# Altium integrated library Lattice Semiconductor ECP3.IntLib: 126 symbols (part 10 of 29)
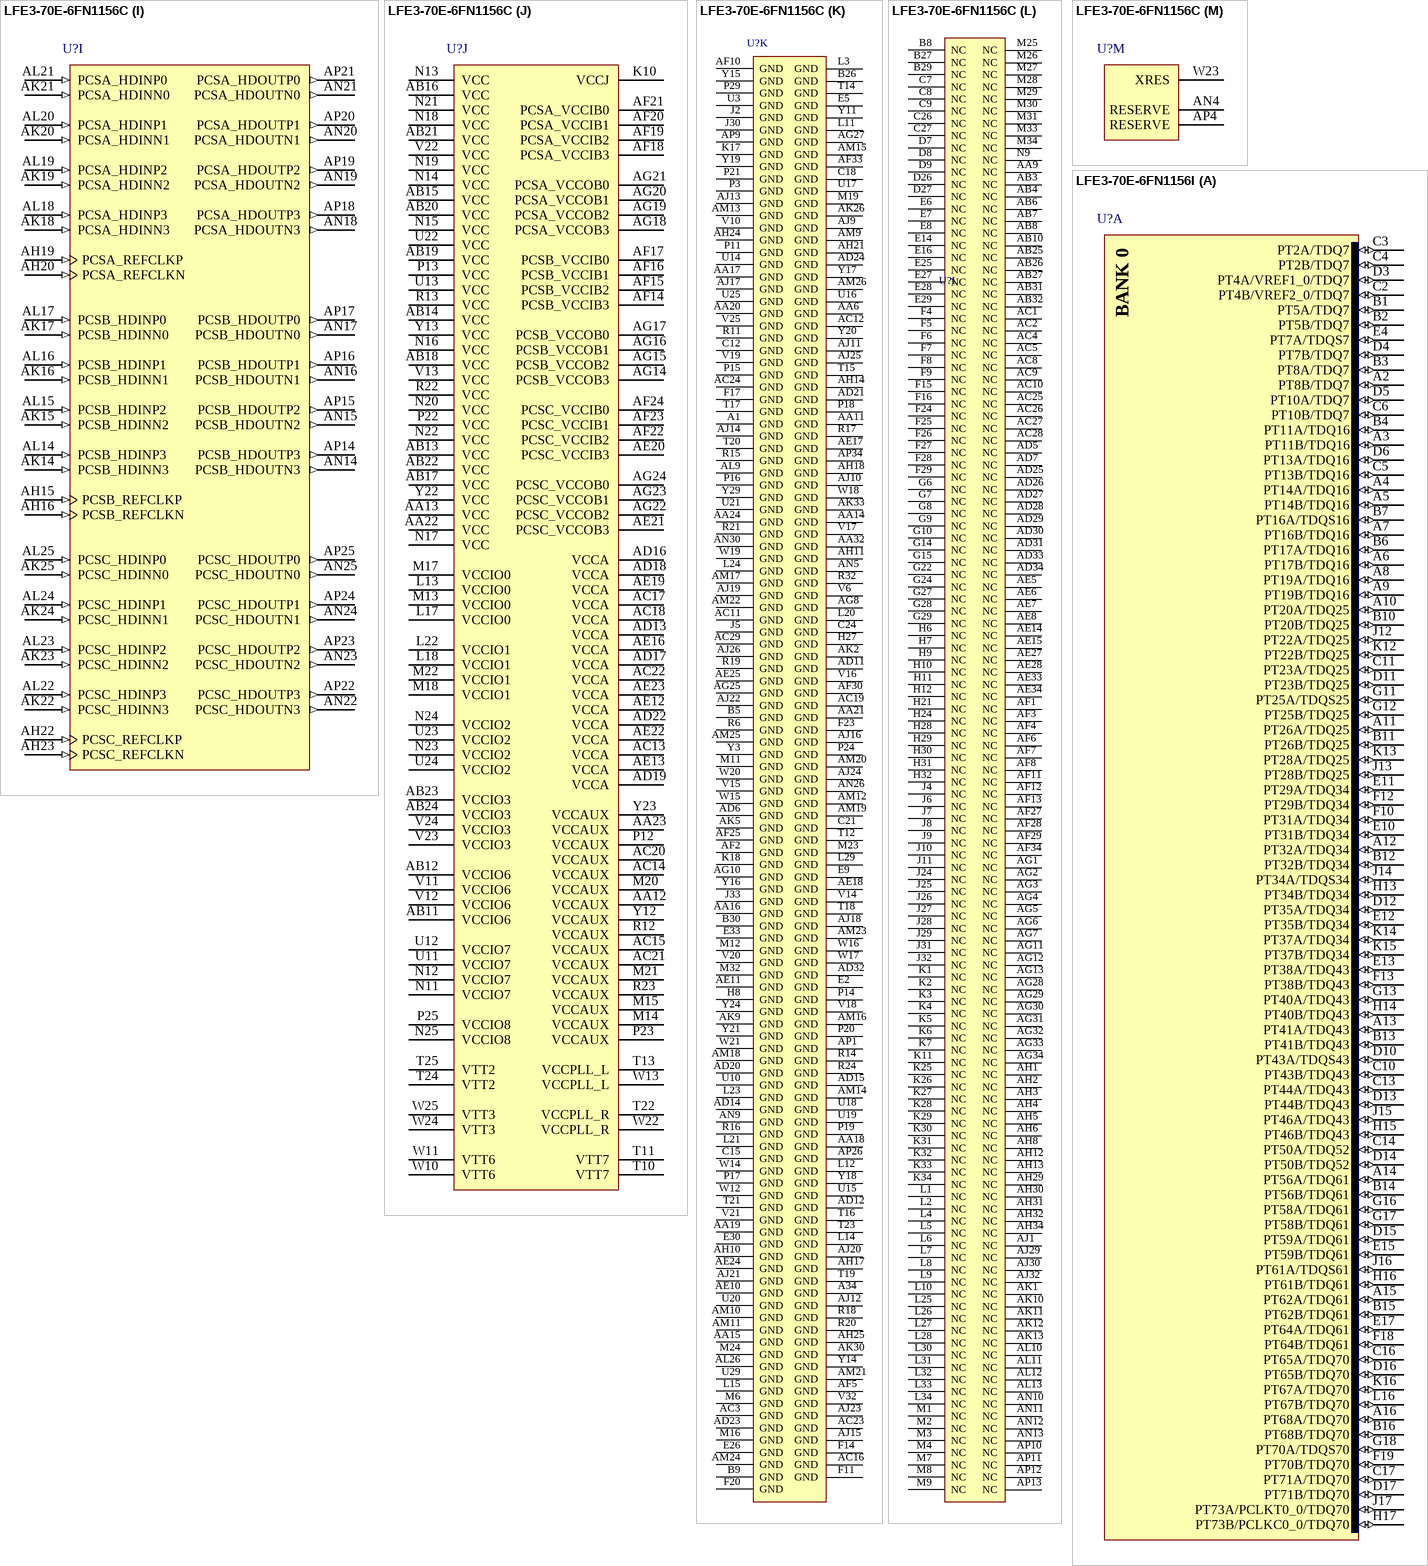
[diagram p264: symbols LFE3-70E-6FN1156C to LFE3-70E-6FN1156I]

## LFE3-70E-6FN1156C
designator U?
ECP3 1.2V FPGA, 490 I/Os, 67K LUTs, 1156-Pin BGA, Speed Grade 6, Commercial Grade, Pb-Free; DatasheetVersion: Ver 01.6, Mar-2010; PackageVersion: ver02.8, Jul-2011; PackageReference: fpBGA1156; PackageDescription: 1156-Ball Fine Pitch Ball Grid Array (fpBGA1156); Code_IPC: BGA100P34X34-1156; ComponentLink1Description: Manufacturer URL; ComponentLink1URL: http://www.latticesemi.com/
footprint fpBGA1156 (BGA, 1156-Leads, Body 35x35mm, Pitch 1mm)
part A pins: A2 PT8B/TDQ7 (io), A3 PT11B/TDQ16 (io), A4 PT14A/TDQ16 (io), A5 PT14B/TDQ16 (io), A6 PT17B/TDQ16 (io), A7 PT16B/TDQ16 (io), A8 PT19A/TDQ16 (io), A9 PT19B/TDQ16 (io), A10 PT20A/TDQ25 (io), A11 PT26A/TDQ25 (io), A12 PT32A/TDQ34 (io), A13 PT41A/TDQ43 (io), A14 PT56A/TDQ61 (io), A15 PT62A/TDQ61 (io), A16 PT68A/TDQ70 (io), B1 PT5A/TDQ7 (io), B2 PT5B/TDQ7 (io), B3 PT8A/TDQ7 (io), B4 PT11A/TDQ16 (io), B6 PT17A/TDQ16 (io), B7 PT16A/TDQS16 (io), B10 PT20B/TDQ25 (io), B11 PT26B/TDQ25 (io), B12 PT32B/TDQ34 (io), B13 PT41B/TDQ43 (io), B14 PT56B/TDQ61 (io), B15 PT62B/TDQ61 (io), B16 PT68B/TDQ70 (io), C2 PT4B/VREF2_0/TDQ7 (io), C3 PT2A/TDQ7 (io), C4 PT2B/TDQ7 (io), C5 PT13B/TDQ16 (io), C6 PT10B/TDQ7 (io), C10 PT43B/TDQ43 (io), C11 PT23A/TDQ25 (io), C13 PT44A/TDQ43 (io), C14 PT50A/TDQ52 (io), C16 PT65A/TDQ70 (io), C17 PT71A/TDQ70 (io), D3 PT4A/VREF1_0/TDQ7 (io), D4 PT7B/TDQ7 (io), D5 PT10A/TDQ7 (io), D6 PT13A/TDQ16 (io), D10 PT43A/TDQS43 (io), D11 PT23B/TDQ25 (io), D12 PT35A/TDQ34 (io), D13 PT44B/TDQ43 (io), D14 PT50B/TDQ52 (io), D15 PT59A/TDQ61 (io), D16 PT65B/TDQ70 (io), D17 PT71B/TDQ70 (io), E4 PT7A/TDQS7 (io), E10 PT31B/TDQ34 (io), E11 PT29A/TDQ34 (io), E12 PT35B/TDQ34 (io), E13 PT38A/TDQ43 (io), E15 PT59B/TDQ61 (io), E17 PT64A/TDQ61 (io), F10 PT31A/TDQ34 (io), F12 PT29B/TDQ34 (io), F13 PT38B/TDQ43 (io), F18 PT64B/TDQ61 (io), F19 PT70B/TDQ70 (io), G11 PT25A/TDQS25 (io), G12 PT25B/TDQ25 (io), G13 PT40A/TDQ43 (io), G16 PT58A/TDQ61 (io), G17 PT58B/TDQ61 (io), G18 PT70A/TDQS70 (io), H13 PT34B/TDQ34 (io), H14 PT40B/TDQ43 (io), H15 PT46B/TDQ43 (io), H16 PT61B/TDQ61 (io), H17 PT73B/PCLKC0_0/TDQ70 (io), J12 PT22A/TDQ25 (io), J13 PT28B/TDQ25 (io), J14 PT34A/TDQS34 (io), J15 PT46A/TDQ43 (io), J16 PT61A/TDQS61 (io), J17 PT73A/PCLKT0_0/TDQ70 (io), K12 PT22B/TDQ25 (io), K13 PT28A/TDQ25 (io), K14 PT37A/TDQ34 (io), K15 PT37B/TDQ34 (io), K16 PT67A/TDQ70 (io), L16 PT67B/TDQ70 (io)
part B pins: A17 PT74A/TDQ79 (io), A18 PT77A/TDQ79 (io), A19 PT83A/TDQ88 (io), A20 PT89A/TDQ88 (io), A21 PT98A/TDQ97 (io), A22 PT104A/TDQ106 (io), A23 PT110A/TDQ115 (io), A24 PT116A/TDQ115 (io), A25 PT122A/TDQ124 (io), A26 PT130A/TDQ133 (io), A27 PT130B/TDQ133 (io), A28 PT128B/TDQ133 (io), A29 PT131A/TDQ133 (io), A30 PT131B/TDQ133 (io), A31 PT134A/TDQ133 (io), B17 PT74B/TDQ79 (io), B18 PT77B/TDQ79 (io), B19 PT83B/TDQ88 (io), B20 PT89B/TDQ88 (io), B21 PT98B/TDQ97 (io), B22 PT104B/TDQ106 (io), B23 PT110B/TDQ115 (io), B24 PT116B/TDQ115 (io), B25 PT122B/TDQ124 (io), B28 PT128A/TDQ133 (io), B31 PT134B/TDQ133 (io), C19 PT86A/TDQ88 (io), C20 PT95A/TDQ97 (io), C22 PT107A/TDQ106 (io), C23 PT113A/TDQ115 (io), C25 PT125A/TDQ124 (io), C28 PT124A/TDQS124 (io), C29 PT136A/VREF1_1/TDQ133 (io), C30 PT136B/VREF2_1/TDQ133 (io), D18 PT80A/TDQ79 (io), D19 PT86B/TDQ88 (io), D20 PT95B/TDQ97 (io), D21 PT101A/TDQ106 (io), D22 PT107B/TDQ106 (io), D23 PT113B/TDQ115 (io), D24 PT119A/TDQ124 (io), D25 PT125B/TDQ124 (io), D28 PT124B/TDQ124 (io), E18 PT80B/TDQ79 (io), E19 PT76A/PCLKT1_0/TDQ79 (io), E20 PT76B/PCLKC1_0/TDQ79 (io), E21 PT101B/TDQ106 (io), E22 PT112A/TDQ115 (io), E23 PT112B/TDQ115 (io), E24 PT119B/TDQ124 (io), F21 PT97A/TDQS97 (io), F22 PT97B/TDQ97 (io), G19 PT82A/TDQ79 (io), G20 PT91A/TDQ88 (io), G21 PT91B/TDQ88 (io), G23 PT118A/TDQ115 (io), G25 PT127B/TDQ124 (io), G26 PT127A/TDQ124 (io), H18 PT79B/TDQ79 (io), H19 PT82B/TDQ79 (io), H20 PT103A/TDQ106 (io), H22 PT109B/TDQ106 (io), H23 PT118B/TDQ115 (io), H25 PT133B/TDQ133 (io), H26 PT133A/TDQS133 (io), J18 PT79A/TDQS79 (io), J19 PT88A/TDQS88 (io), J20 PT103B/TDQ106 (io), J21 PT109A/TDQ106 (io), J22 PT106A/TDQS106 (io), J23 PT106B/TDQ106 (io), K19 PT88B/TDQ88 (io), K20 PT85A/TDQ88 (io), K21 PT115B/TDQ115 (io), K22 PT115A/TDQS115 (io), K23 PT121A/TDQ124 (io), K24 PT121B/TDQ124 (io), L19 PT85B/TDQ88 (io)
part C pins: N26 PR19A/RDQ22 (io), N27 PR22A/RDQS22 (io), N28 PR22B/RDQ22 (io), N29 PR17B/RDQ22 (io), N30 PR17A/RDQ22 (io), N31 PR20B/RDQ22 (io), N32 PR20A/RDQ22 (io), N33 PR23B/RDQ22 (io), N34 PR23A/RDQ22 (io), P26 PR19B/RDQ22 (io), P27 PR25B/RDQ22 (io), P28 PR25A/RDQ22 (io), P30 PR25E_C/RUM2_GPLLT_IN_A/RDQ22 (in), P31 PR25E_B/RUM2_GPLLT_FB_B/RDQ22 (in), P32 PR25E_A/RUM2_GPLLT_FB_A/RDQ22 (in), P33 PR26B/RDQ31 (io), P34 PR26A/RDQ31 (io), R25 PR31B/RDQ31 (io), R26 PR31A/RDQS31 (io), R27 PR28B/RDQ31 (io), R28 PR28A/RDQ31 (io), R29 PR25E_D/RUM2_GPLLT_IN_B/RDQ22 (in), R30 PR29B/RDQ31 (io), R31 PR29A/RDQ31 (io), R33 PR32B/RDQ31 (io), R34 PR32A/RDQ31 (io), T26 PR37A/RUM0_GDLLT_IN_A/RDQ40 (io), T27 PR37B/RUM0_GDLLT_IN_B/RDQ40 (io), T28 PR34B/VREF2_2/RDQ31 (io), T29 PR34A/VREF1_2/RDQ31 (io), T30 PR40A/RDQS40 (io), T31 PR35B/RDQ40 (io), T32 PR35A/RDQ40 (io), T33 PR38B/RUM0_GDLLT_FB_B/RDQ40 (io), T34 PR38A/RUM0_GDLLT_FB_A/RDQ40 (io), U26 PR43A/PCLKT2_0/RDQ40 (io), U27 PR43B/PCLKC2_0/RDQ40 (io), U30 PR40B/RDQ40 (io), U31 PR41B/RDQ40 (io), U32 PR41A/RDQ40 (io), U33 PR43E_B/RUM0_GPLLT_FB_B/RDQ40 (in), U34 PR43E_A/RUM0_GPLLT_FB_A/RDQ40 (in), V33 PR43E_D/RUM0_GPLLT_IN_B/RDQ40 (in), V34 PR43E_C/RUM0_GPLLT_IN_A/RDQ40 (in)
part D pins: AA25 PR64A/RDQ67 (io), AA26 PR64B/RDQ67 (io), AA27 PR70B/RDQ67 (io), AA28 PR70A/RDQ67 (io), AA29 PR58B/RDQ58 (io), AA30 PR65B/RDQ67 (io), AA31 PR65A/RDQ67 (io), AA33 PR61E_B/RLM1_GPLLT_FB_B/RDQ58 (in), AA34 PR61E_A/RLM1_GPLLT_FB_A/RDQ58 (in), AB28 PR70E_C/RLM2_GPLLT_IN_A/RDQ67 (in), AB29 PR70E_D/RLM2_GPLLT_IN_B/RDQ67 (in), AB30 PR67A/RDQS67 (io), AB33 PR62B/RDQ67 (io), AB34 PR62A/RDQ67 (io), AC30 PR67B/RDQ67 (io), AC31 PR70E_B/RLM2_GPLLT_FB_B/RDQ67 (in), AC32 PR70E_A/RLM2_GPLLT_FB_A/RDQ67 (in), AC33 PR68B/RDQ67 (io), AC34 PR68A/RDQ67 (io), AE26 PB145B (io), AE29 PR74B/RDQ76 (io), AE30 PR74A/RDQ76 (io), AE31 PR71B/RDQ76 (io), AE32 PR71A/RDQ76 (io), AF26 PB145A (io), AF31 PR77B/RDQ76 (io), AF32 PR77A/RDQ76 (io), AG26 PB136B (io), AH26 PB136A (io), AH27 PB142A (io), AH28 PB142B (io), AH33 PR82A/RDQ85 (io), AJ27 PB139B (io), AJ28 PB140B (io), AJ31 PR88A/RDQ85 (io), AJ33 PR82B/RDQ85 (io), AJ34 PR79E_C/RLM3_GPLLT_IN_A/RDQ76 (in), AK27 PB139A (io), AK28 PB140A (io), AK29 PB143B (io), AK31 PR88B/RDQ85 (io), AK32 PR86B/RDQ85 (io), AK34 PR79E_D/RLM3_GPLLT_IN_B/RDQ76 (in), AL27 PB134B (io), AL28 PB137B (io), AL29 PB143A (io), AL30 PR91A/RDQ94 (io), AL31 PR95A/RDQ94 (io), AL32 PR86A/RDQ85 (io), AL33 PR85B/RDQ85 (io), AL34 PR85A/RDQS85 (io), AM27 PB134A (io), AM28 PB137A (io), AM29 PR97A/RDQ94 (io), AM30 PR91B/RDQ94 (io), AM31 PR95B/RDQ94 (io), AM32 PR89B/RDQ94 (io), AM33 PR79E_B/RLM3_GPLLT_FB_B/RDQ76 (in), AM34 PR79E_A/RLM3_GPLLT_FB_A/RDQ76 (in), AN27 PB133B (io), AN28 PB131B (io), AN29 PR97B/RDQ94 (io), AN31 PR92B/RDQ94 (io), AN32 PR89A/RDQ94 (io), AN33 PR80B/RDQ85 (io), AN34 PR80A/RDQ85 (io), AP27 PB133A (io), AP28 PB131A (io), AP29 PR94A/RDQS94 (io), AP30 PR94B/RDQ94 (io), AP31 PR92A/RDQ94 (io), AP32 PR83B/RDQ85 (io), AP33 PR83A/RDQ85 (io), U28 PR46A/PCLKT3_0/RDQ49 (io), V26 PR49B/RDQ49 (io), V27 PR49A/RDQS49 (io), V28 PR46B/PCLKC3_0/RDQ49 (io), V29 PR52A/VREF1_3/RDQ49 (io), V30 PR44B/RDQ49 (io), V31 PR44A/RDQ49 (io), W26 PR55B/RDQ58 (io), W27 PR55A/RDQ58 (io), W28 PR52B/VREF2_3/RDQ49 (io), W29 PR53B/RDQ58 (io), W30 PR53A/RDQ58 (io), W31 PR50B/RDQ49 (io), W32 PR50A/RDQ49 (io), W33 PR47B/RDQ49 (io), W34 PR47A/RDQ49 (io), Y25 PR61B/RDQ58 (io), Y26 PR61A/RDQ58 (io), Y27 PR61E_D/RLM1_GPLLT_IN_B/RDQ58 (in), Y28 PR61E_C/RLM1_GPLLT_IN_A/RDQ58 (in), Y30 PR58A/RDQS58 (io), Y31 PR59B/RDQ58 (io), Y32 PR59A/RDQ58 (io), Y33 PR56B/RDQ58 (io), Y34 PR56A/RDQ58 (io)
part E pins: AA1 PL62B/LDQ67 (io), AA2 PL62A/LDQ67 (io), AA3 PL65B/LDQ67 (io), AA4 PL65A/LDQ67 (io), AA5 PL70A/LDQ67 (io), AA7 PL64B/LDQ67 (io), AA8 PL61B/LDQ58 (io), AA10 PL67A/LDQS67 (io), AB1 PL68B/LDQ67 (io), AB2 PL68A/LDQ67 (io), AB5 PL70B/LDQ67 (io), AB9 PL67B/LDQ67 (io), AC6 PL70E_C/LLM2_GPLLT_IN_A (in), AC7 PL70E_D/LLM2_GPLLT_IN_B (in), AD1 PL70E_B/LLM2_GPLLT_FB_B (in), AD2 PL70E_A/LLM2_GPLLT_FB_A (in), AD3 PL71B/LDQ76 (io), AD4 PL71A/LDQ76 (io), AD8 PL82B/LDQ85 (io), AD9 PL82A/LDQ85 (io), AD10 PB4B (io), AE1 PL74B/LDQ76 (io), AE2 PL74A/LDQ76 (io), AE3 PL77B/LDQ76 (io), AE4 PL77A/LDQ76 (io), AE9 PB4A (io), AF9 PB7A (io), AG9 PB7B (io), AH7 PB2A (io), AH9 PB13A (io), AJ2 PL85A/LDQS85 (io), AJ3 PL85B/LDQ85 (io), AJ4 PL88A/LDQ85 (io), AJ5 PL91A/LDQ94 (io), AJ6 PL91B/LDQ94 (io), AJ7 PB2B (io), AJ8 PB13B (io), AK3 PL86B/LDQ85 (io), AK4 PL88B/LDQ85 (io), AK6 PB5A (io), AK7 PB8A (io), AK8 PB10A (io), AL1 PL79E_C/LLM3_GPLLT_IN_A (in), AL2 PL79E_D/LLM3_GPLLT_IN_B (in), AL3 PL86A/LDQ85 (io), AL4 PL95A/LDQ94 (io), AL5 PL92A/LDQ94 (io), AL6 PB5B (io), AL7 PB8B (io), AL8 PB10B (io), AM1 PL79E_A/LLM3_GPLLT_FB_A (in), AM2 PL79E_B/LLM3_GPLLT_FB_B (in), AM3 PL89B/LDQ94 (io), AM4 PL95B/LDQ94 (io), AM5 PL92B/LDQ94 (io), AM6 PL94A/LDQS94 (io), AM7 PB11A (io), AM8 PB11B (io), AN1 PL80A/LDQ85 (io), AN2 PL80B/LDQ85 (io), AN3 PL89A/LDQ94 (io), AN6 PL94B/LDQ94 (io), AN7 PB14A (io), AN8 PB16A (io), AP2 PL83A/LDQ85 (io), AP3 PL83B/LDQ85 (io), AP5 PL97A/LDQ94 (io), AP6 PL97B/LDQ94 (io), AP7 PB14B (io), AP8 PB16B (io), U1 PL44B/LDQ49 (io), U2 PL44A/LDQ49 (io), V1 PL47B/LDQ49 (io), V2 PL47A/LDQ49 (io), V3 PL50B/LDQ49 (io), V4 PL50A/LDQ49 (io), V5 PL49A/LDQS49 (io), V7 PL52A/VREF1_6/LDQ49 (io), V8 PL46B/PCLKC6_0/LDQ49 (io), V9 PL46A/PCLKT6_0/LDQ49 (io), W1 PL53B/LDQ58 (io), W2 PL53A/LDQ58 (io), W3 PL56B/LDQ58 (io), W4 PL56A/LDQ58 (io), W5 PL49B/LDQ49 (io), W6 PL58A/LDQS58 (io), W7 PL52B/VREF2_6/LDQ49 (io), W8 PL55A/LDQ58 (io), W9 PL55B/LDQ58 (io), Y1 PL59B/LDQ58 (io), Y2 PL59A/LDQ58 (io), Y4 PL61E_B/LLM1_GPLLT_FB_B (in), Y5 PL61E_A/LLM1_GPLLT_FB_A (in), Y6 PL58B/LDQ58 (io), Y7 PL64A/LDQ67 (io), Y8 PL61A/LDQ58 (io), Y9 PL61E_C/LLM1_GPLLT_IN_A (in), Y10 PL61E_D/LLM1_GPLLT_IN_B (in)
part F pins: E3 PL10B/LDQ13 (io), F1 PL8B/LDQ13 (io), F2 PL8A/LDQ13 (io), F3 PL10A/LDQ13 (io), G1 PL11B/LDQ13 (io), G2 PL11A/LDQ13 (io), G3 PL13A/LDQS13 (io), G4 PL2A (io), G5 PL2B (io), H1 PL14A/LDQ13 (io), H2 PL16B/LDQ13 (io), H3 PL13B/LDQ13 (io), H4 PL5B (io), H5 PL5A (io), J1 PL14B/LDQ13 (io), J3 PL16A/LDQ13 (io), K8 PL4B (io), K9 PL4A (io), M5 PL19A/LDQ22 (io), M10 PL22A/LDQS22 (io), N1 PL20B/LDQ22 (io), N2 PL20A/LDQ22 (io), N3 PL17B/LDQ22 (io), N4 PL17A/LDQ22 (io), N5 PL19B/LDQ22 (io), N6 PL25E_D/LUM2_GPLLT_IN_B (in), N7 PL25E_C/LUM2_GPLLT_IN_A (in), N8 PL25A/LDQ22 (io), N10 PL22B/LDQ22 (io), P1 PL25E_B/LUM2_GPLLT_FB_B (in), P2 PL25E_A/LUM2_GPLLT_FB_A (in), P4 PL23B/LDQ22 (io), P5 PL23A/LDQ22 (io), P6 PL31B/LDQ31 (io), P7 PL31A/LDQS31 (io), P8 PL25B/LDQ22 (io), P9 PL28A/LDQ31 (io), P10 PL28B/LDQ31 (io), R1 PL29B/LDQ31 (io), R2 PL29A/LDQ31 (io), R3 PL32B/LDQ31 (io), R4 PL32A/LDQ31 (io), R5 PL26B/LDQ31 (io), R7 PL26A/LDQ31 (io), R8 PL37A/LUM0_GDLLT_IN_A/LDQ40 (io), R9 PL34A/VREF1_7/LDQ31 (io), R10 PL34B/VREF2_7/LDQ31 (io), T1 PL41B/LDQ40 (io), T2 PL41A/LDQ40 (io), T3 PL38B/LUM0_GDLLT_FB_B/LDQ40 (io), T4 PL38A/LUM0_GDLLT_FB_A/LDQ40 (io), T5 PL35B/LDQ40 (io), T6 PL35A/LDQ40 (io), T7 PL37B/LUM0_GDLLT_IN_B/LDQ40 (io), T8 PL40B/LDQ40 (io), T9 PL40A/LDQS40 (io), U4 PL43E_B/LUM0_GPLLT_FB_B (in), U5 PL43E_A/LUM0_GPLLT_FB_A (in), U6 PL43E_C/LUM0_GPLLT_IN_A (in), U7 PL43E_D/LUM0_GPLLT_IN_B (in), U8 PL43B/PCLKC7_0/LDQ40 (io), U9 PL43A/PCLKT7_0/LDQ40 (io)
part G pins: A32 PT140A (io), A33 PT140B (io), B32 PT143A (io), C31 PT145B (io), C32 PT143B (io), D29 PT142B (io), D30 PT142A (io), D31 PT145A (io), D33 PR5A (io), D34 PR5B/DI/CSSPI0N/CSSPIN (io), E31 PR10A/WRITEN (io), E32 PR10B/D0/SPIFASTN (io), E34 PR8A/DOUT/CSON/CSSPI1N (io), F31 PR7B/CSN/SN/CONT1N (io), F32 PR16A/D7/SPID0 (io), F33 PR16B/BUSY/SISPI (io), F34 PR8B/MCLK (io), G30 PR7A/CS1N/HOLDN/CONT2N (io), G32 PR13B/D4/SO (io), G33 PR13A/D3/SI (io), G34 PR11A/D1 (io), H33 PR11B/D2 (io), H34 PR14A/D5 (io), J34 PR14B/D6/SPID1 (io)
part H pins: B33 CFG0 (in), B34 PROGRAMN (in), C1 TDO (out), C33 INITN (io), C34 CCLK (in), D1 TCK (in), D2 TMS (in), D32 CFG2 (in), E1 TDI (in), F30 CFG1 (in), G31 DONE (io)
part I pins: AH15 PCSB_REFCLKP (in), AH16 PCSB_REFCLKN (in), AH19 PCSA_REFCLKP (in), AH20 PCSA_REFCLKN (in), AH22 PCSC_REFCLKP (in), AH23 PCSC_REFCLKN (in), AK14 PCSB_HDINN3 (in), AK15 PCSB_HDINN2 (in), AK16 PCSB_HDINN1 (in), AK17 PCSB_HDINN0 (in), AK18 PCSA_HDINN3 (in), AK19 PCSA_HDINN2 (in), AK20 PCSA_HDINN1 (in), AK21 PCSA_HDINN0 (in), AK22 PCSC_HDINN3 (in), AK23 PCSC_HDINN2 (in), AK24 PCSC_HDINN1 (in), AK25 PCSC_HDINN0 (in), AL14 PCSB_HDINP3 (in), AL15 PCSB_HDINP2 (in), AL16 PCSB_HDINP1 (in), AL17 PCSB_HDINP0 (in), AL18 PCSA_HDINP3 (in), AL19 PCSA_HDINP2 (in), AL20 PCSA_HDINP1 (in), AL21 PCSA_HDINP0 (in), AL22 PCSC_HDINP3 (in), AL23 PCSC_HDINP2 (in), AL24 PCSC_HDINP1 (in), AL25 PCSC_HDINP0 (in), AN14 PCSB_HDOUTN3 (out), AN15 PCSB_HDOUTN2 (out), AN16 PCSB_HDOUTN1 (out), AN17 PCSB_HDOUTN0 (out), AN18 PCSA_HDOUTN3 (out), AN19 PCSA_HDOUTN2 (out), AN20 PCSA_HDOUTN1 (out), AN21 PCSA_HDOUTN0 (out), AN22 PCSC_HDOUTN3 (out), AN23 PCSC_HDOUTN2 (out), AN24 PCSC_HDOUTN1 (out), AN25 PCSC_HDOUTN0 (out), AP14 PCSB_HDOUTP3 (out), AP15 PCSB_HDOUTP2 (out), AP16 PCSB_HDOUTP1 (out), AP17 PCSB_HDOUTP0 (out), AP18 PCSA_HDOUTP3 (out), AP19 PCSA_HDOUTP2 (out), AP20 PCSA_HDOUTP1 (out), AP21 PCSA_HDOUTP0 (out), AP22 PCSC_HDOUTP3 (out), AP23 PCSC_HDOUTP2 (out), AP24 PCSC_HDOUTP1 (out), AP25 PCSC_HDOUTP0 (out)
part J pins: AA12 VCCAUX (power), AA13 VCC (power), AA22 VCC (power), AA23 VCCAUX (power), AB11 VCCIO6 (power), AB12 VCCIO6 (power), AB13 VCC (power), AB14 VCC (power), AB15 VCC (power), AB16 VCC (power), AB17 VCC (power), AB18 VCC (power), AB19 VCC (power), AB20 VCC (power), AB21 VCC (power), AB22 VCC (power), AB23 VCCIO3 (power), AB24 VCCIO3 (power), AC13 VCCA (power), AC14 VCCAUX (power), AC15 VCCAUX (power), AC17 VCCA (power), AC18 VCCA (power), AC20 VCCAUX (power), AC21 VCCAUX (power), AC22 VCCA (power), AD13 VCCA (power), AD16 VCCA (power), AD17 VCCA (power), AD18 VCCA (power), AD19 VCCA (power), AD22 VCCA (power), AE12 VCCA (power), AE13 VCCA (power), AE16 VCCA (power), AE19 VCCA (power), AE20 PCSC_VCCIB3 (power), AE21 PCSC_VCCOB3 (power), AE22 VCCA (power), AE23 VCCA (power), AF14 PCSB_VCCIB3 (power), AF15 PCSB_VCCIB2 (power), AF16 PCSB_VCCIB1 (power), AF17 PCSB_VCCIB0 (power), AF18 PCSA_VCCIB3 (power), AF19 PCSA_VCCIB2 (power), AF20 PCSA_VCCIB1 (power), AF21 PCSA_VCCIB0 (power), AF22 PCSC_VCCIB2 (power), AF23 PCSC_VCCIB1 (power), AF24 PCSC_VCCIB0 (power), AG14 PCSB_VCCOB3 (power), AG15 PCSB_VCCOB2 (power), AG16 PCSB_VCCOB1 (power), AG17 PCSB_VCCOB0 (power), AG18 PCSA_VCCOB3 (power), AG19 PCSA_VCCOB2 (power), AG20 PCSA_VCCOB1 (power), AG21 PCSA_VCCOB0 (power), AG22 PCSC_VCCOB2 (power), AG23 PCSC_VCCOB1 (power), AG24 PCSC_VCCOB0 (power), K10 VCCJ (power), L13 VCCIO0 (power), L17 VCCIO0 (power), L18 VCCIO1 (power), L22 VCCIO1 (power), M13 VCCIO0 (power), M14 VCCAUX (power), M15 VCCAUX (power), M17 VCCIO0 (power), M18 VCCIO1 (power), M20 VCCAUX (power), M21 VCCAUX (power), M22 VCCIO1 (power), N11 VCCIO7 (power), N12 VCCIO7 (power), N13 VCC (power), N14 VCC (power), N15 VCC (power), N16 VCC (power), N17 VCC (power), N18 VCC (power), N19 VCC (power), N20 VCC (power), N21 VCC (power), N22 VCC (power), N23 VCCIO2 (power), N24 VCCIO2 (power), N25 VCCIO8 (power), P12 VCCAUX (power), P13 VCC (power), P22 VCC (power), P23 VCCAUX (power), P25 VCCIO8 (power), R12 VCCAUX (power), R13 VCC (power), R22 VCC (power), R23 VCCAUX (power), T10 VTT7 (power), T11 VTT7 (power), T13 VCCPLL_L (power), T22 VCCPLL_R (power), T24 VTT2 (power), T25 VTT2 (power), U11 VCCIO7 (power), U12 VCCIO7 (power), U13 VCC (power), U22 VCC (power), U23 VCCIO2 (power), U24 VCCIO2 (power), V11 VCCIO6 (power), V12 VCCIO6 (power), V13 VCC (power), V22 VCC (power), V23 VCCIO3 (power), V24 VCCIO3 (power), W10 VTT6 (power), W11 VTT6 (power), W13 VCCPLL_L (power), W22 VCCPLL_R (power), W24 VTT3 (power), W25 VTT3 (power), Y12 VCCAUX (power), Y13 VCC (power), Y22 VCC (power), Y23 VCCAUX (power)
part K pins: A1 GND (power), A34 GND (power), AA6 GND (power), AA11 GND (power), AA14 GND (power), AA15 GND (power), AA16 GND (power), AA17 GND (power), AA18 GND (power), AA19 GND (power), AA20 GND (power), AA21 GND (power), AA24 GND (power), AA32 GND (power), AC3 GND (power), AC11 GND (power), AC12 GND (power), AC16 GND (power), AC19 GND (power), AC23 GND (power), AC24 GND (power), AC29 GND (power), AD6 GND (power), AD11 GND (power), AD12 GND (power), AD14 GND (power), AD15 GND (power), AD20 GND (power), AD21 GND (power), AD23 GND (power), AD24 GND (power), AD32 GND (power), AE10 GND (power), AE11 GND (power), AE17 GND (power), AE18 GND (power), AE24 GND (power), AE25 GND (power), AF2 GND (power), AF5 GND (power), AF10 GND (power), AF25 GND (power), AF30 GND (power), AF33 GND (power), AG8 GND (power), AG10 GND (power), AG25 GND (power), AG27 GND (power), AH10 GND (power), AH11 GND (power), AH14 GND (power), AH17 GND (power), AH18 GND (power), AH21 GND (power), AH24 GND (power), AH25 GND (power), AJ9 GND (power), AJ10 GND (power), AJ11 GND (power), AJ12 GND (power), AJ13 GND (power), AJ14 GND (power), AJ15 GND (power), AJ16 GND (power), AJ17 GND (power), AJ18 GND (power), AJ19 GND (power), AJ20 GND (power), AJ21 GND (power), AJ22 GND (power), AJ23 GND (power), AJ24 GND (power), AJ25 GND (power), AJ26 GND (power), AK2 GND (power), AK5 GND (power), AK9 GND (power), AK26 GND (power), AK30 GND (power), AK33 GND (power), AL9 GND (power), AL26 GND (power), AM9 GND (power), AM10 GND (power), AM11 GND (power), AM12 GND (power), AM13 GND (power), AM14 GND (power), AM15 GND (power), AM16 GND (power), AM17 GND (power), AM18 GND (power), AM19 GND (power), AM20 GND (power), AM21 GND (power), AM22 GND (power), AM23 GND (power), AM24 GND (power), AM25 GND (power), AM26 GND (power), AN5 GND (power), AN9 GND (power), AN26 GND (power), AN30 GND (power), AP1 GND (power), AP9 GND (power), AP26 GND (power), AP34 GND (power), B5 GND (power), B9 GND (power), B26 GND (power), B30 GND (power), C12 GND (power), C15 GND (power), C18 GND (power), C21 GND (power), C24 GND (power), E2 GND (power), E5 GND (power), E9 GND (power), E26 GND (power), E30 GND (power), E33 GND (power), F11 GND (power), F14 GND (power), F17 GND (power), F20 GND (power), F23 GND (power), H8 GND (power), H27 GND (power), J2 GND (power), J5 GND (power), J30 GND (power), J33 GND (power), K17 GND (power), K18 GND (power), L3 GND (power), L11 GND (power), L12 GND (power), L14 GND (power), L15 GND (power), L20 GND (power), L21 GND (power), L23 GND (power), L24 GND (power), L29 GND (power), M6 GND (power), M11 GND (power), M12 GND (power), M16 GND (power), M19 GND (power), M23 GND (power), M24 GND (power), M32 GND (power), P3 GND (power), P11 GND (power), P14 GND (power), P15 GND (power), P16 GND (power), P17 GND (power), P18 GND (power), P19 GND (power), P20 GND (power), P21 GND (power), P24 GND (power), P29 GND (power), R6 GND (power), R11 GND (power), R14 GND (power), R15 GND (power), R16 GND (power), R17 GND (power), R18 GND (power), R19 GND (power), R20 GND (power), R21 GND (power), R24 GND (power), R32 GND (power), T12 GND (power), T14 GND (power), T15 GND (power), T16 GND (power), T17 GND (power), T18 GND (power), T19 GND (power), T20 GND (power), T21 GND (power), T23 GND (power), U3 GND (power), U10 GND (power), U14 GND (power), U15 GND (power), U16 GND (power), U17 GND (power), U18 GND (power), U19 GND (power), U20 GND (power), U21 GND (power), U25 GND (power), U29 GND (power), V6 GND (power), V10 GND (power), V14 GND (power), V15 GND (power), V16 GND (power), V17 GND (power), V18 GND (power), V19 GND (power), V20 GND (power), V21 GND (power), V25 GND (power), V32 GND (power), W12 GND (power), W14 GND (power), W15 GND (power), W16 GND (power), W17 GND (power), W18 GND (power), W19 GND (power), W20 GND (power), W21 GND (power), Y3 GND (power), Y11 GND (power), Y14 GND (power), Y15 GND (power), Y16 GND (power), Y17 GND (power), Y18 GND (power), Y19 GND (power), Y20 GND (power), Y21 GND (power), Y24 GND (power), Y29 GND (power)
part L pins: AA9 NC, AB3 NC, AB4 NC, AB6 NC, AB7 NC, AB8 NC, AB10 NC, AB25 NC, AB26 NC, AB27 NC, AB31 NC, AB32 NC, AC1 NC, AC2 NC, AC4 NC, AC5 NC, AC8 NC, AC9 NC, AC10 NC, AC25 NC, AC26 NC, AC27 NC, AC28 NC, AD5 NC, AD7 NC, AD25 NC, AD26 NC, AD27 NC, AD28 NC, AD29 NC, AD30 NC, AD31 NC, AD33 NC, AD34 NC, AE5 NC, AE6 NC, AE7 NC, AE8 NC, AE14 NC, AE15 NC, AE27 NC, AE28 NC, AE33 NC, AE34 NC, AF1 NC, AF3 NC, AF4 NC, AF6 NC, AF7 NC, AF8 NC, AF11 NC, AF12 NC, AF13 NC, AF27 NC, AF28 NC, AF29 NC, AF34 NC, AG1 NC, AG2 NC, AG3 NC, AG4 NC, AG5 NC, AG6 NC, AG7 NC, AG11 NC, AG12 NC, AG13 NC, AG28 NC, AG29 NC, AG30 NC, AG31 NC, AG32 NC, AG33 NC, AG34 NC, AH1 NC, AH2 NC, AH3 NC, AH4 NC, AH5 NC, AH6 NC, AH8 NC, AH12 NC, AH13 NC, AH29 NC, AH30 NC, AH31 NC, AH32 NC, AH34 NC, AJ1 NC, AJ29 NC, AJ30 NC, AJ32 NC, AK1 NC, AK10 NC, AK11 NC, AK12 NC, AK13 NC, AL10 NC, AL11 NC, AL12 NC, AL13 NC, AN10 NC, AN11 NC, AN12 NC, AN13 NC, AP10 NC, AP11 NC, AP12 NC, AP13 NC, B8 NC, B27 NC, B29 NC, C7 NC, C8 NC, C9 NC, C26 NC, C27 NC, D7 NC, D8 NC, D9 NC, D26 NC, D27 NC, E6 NC, E7 NC, E8 NC, E14 NC, E16 NC, E25 NC, E27 NC, E28 NC, E29 NC, F4 NC, F5 NC, F6 NC, F7 NC, F8 NC, F9 NC, F15 NC, F16 NC, F24 NC, F25 NC, F26 NC, F27 NC, F28 NC, F29 NC, G6 NC, G7 NC, G8 NC, G9 NC, G10 NC, G14 NC, G15 NC, G22 NC, G24 NC, G27 NC, G28 NC, G29 NC, H6 NC, H7 NC, H9 NC, H10 NC, H11 NC, H12 NC, H21 NC, H24 NC, H28 NC, H29 NC, H30 NC, H31 NC, H32 NC, J4 NC, J6 NC, J7 NC, J8 NC, J9 NC, J10 NC, J11 NC, J24 NC, J25 NC, J26 NC, J27 NC, J28 NC, J29 NC, J31 NC, J32 NC, K1 NC, K2 NC, K3 NC, K4 NC, K5 NC, K6 NC, K7 NC, K11 NC, K25 NC, K26 NC, K27 NC, K28 NC, K29 NC, K30 NC, K31 NC, K32 NC, K33 NC, K34 NC, L1 NC, L2 NC, L4 NC, L5 NC, L6 NC, L7 NC, L8 NC, L9 NC, L10 NC, L25 NC, L26 NC, L27 NC, L28 NC, L30 NC, L31 NC, L32 NC, L33 NC, L34 NC, M1 NC, M2 NC, M3 NC, M4 NC, M7 NC, M8 NC, M9 NC, M25 NC, M26 NC, M27 NC, M28 NC, M29 NC, M30 NC, M31 NC, M33 NC, M34 NC, N9 NC
part M pins: AN4 RESERVE, AP4 RESERVE, W23 XRES
part A text: BANK 0
part B text: BANK 1
part C text: BANK 2
part D text: BANK 3
part E text: BANK 6
part F text: BANK 7
part G text: BANK 8

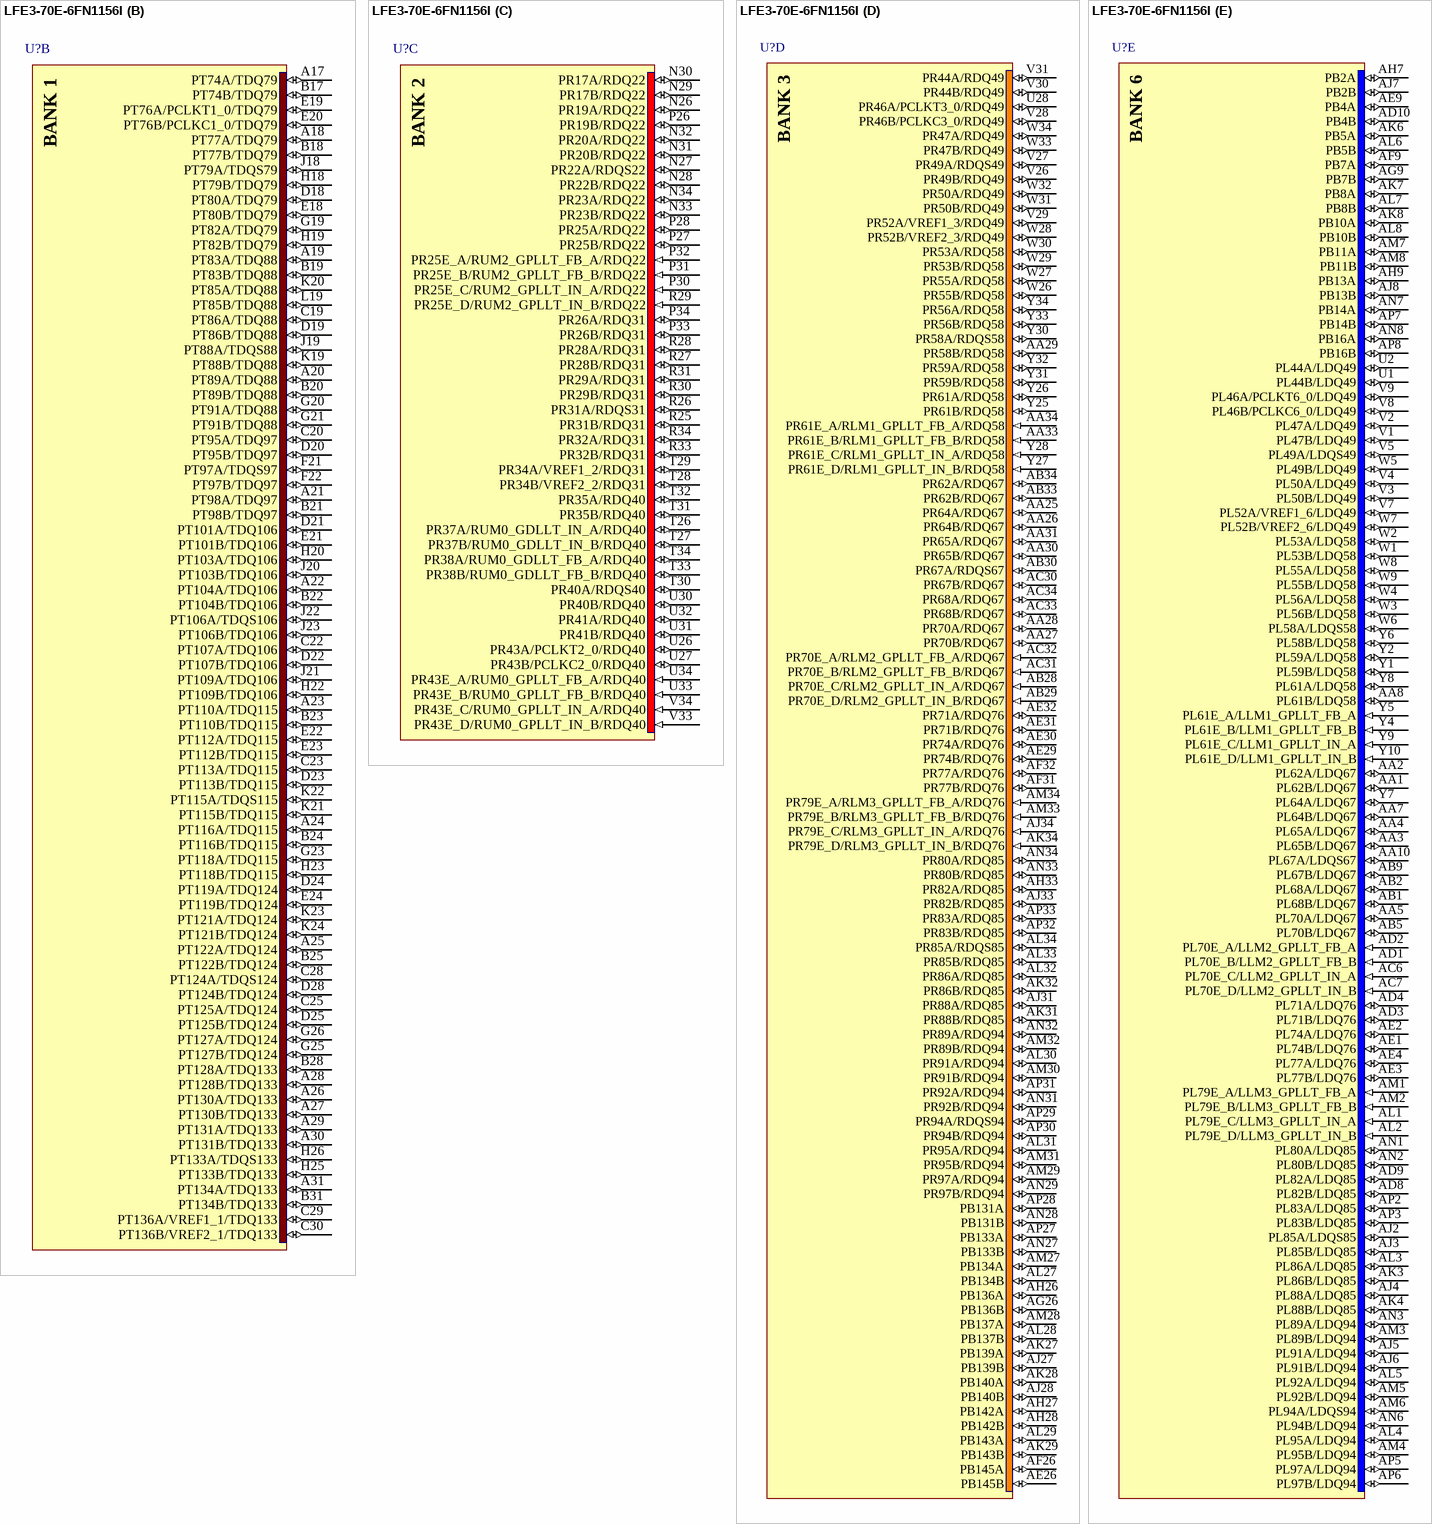
[diagram p52: symbol LFE3-70E-6FN1156I]

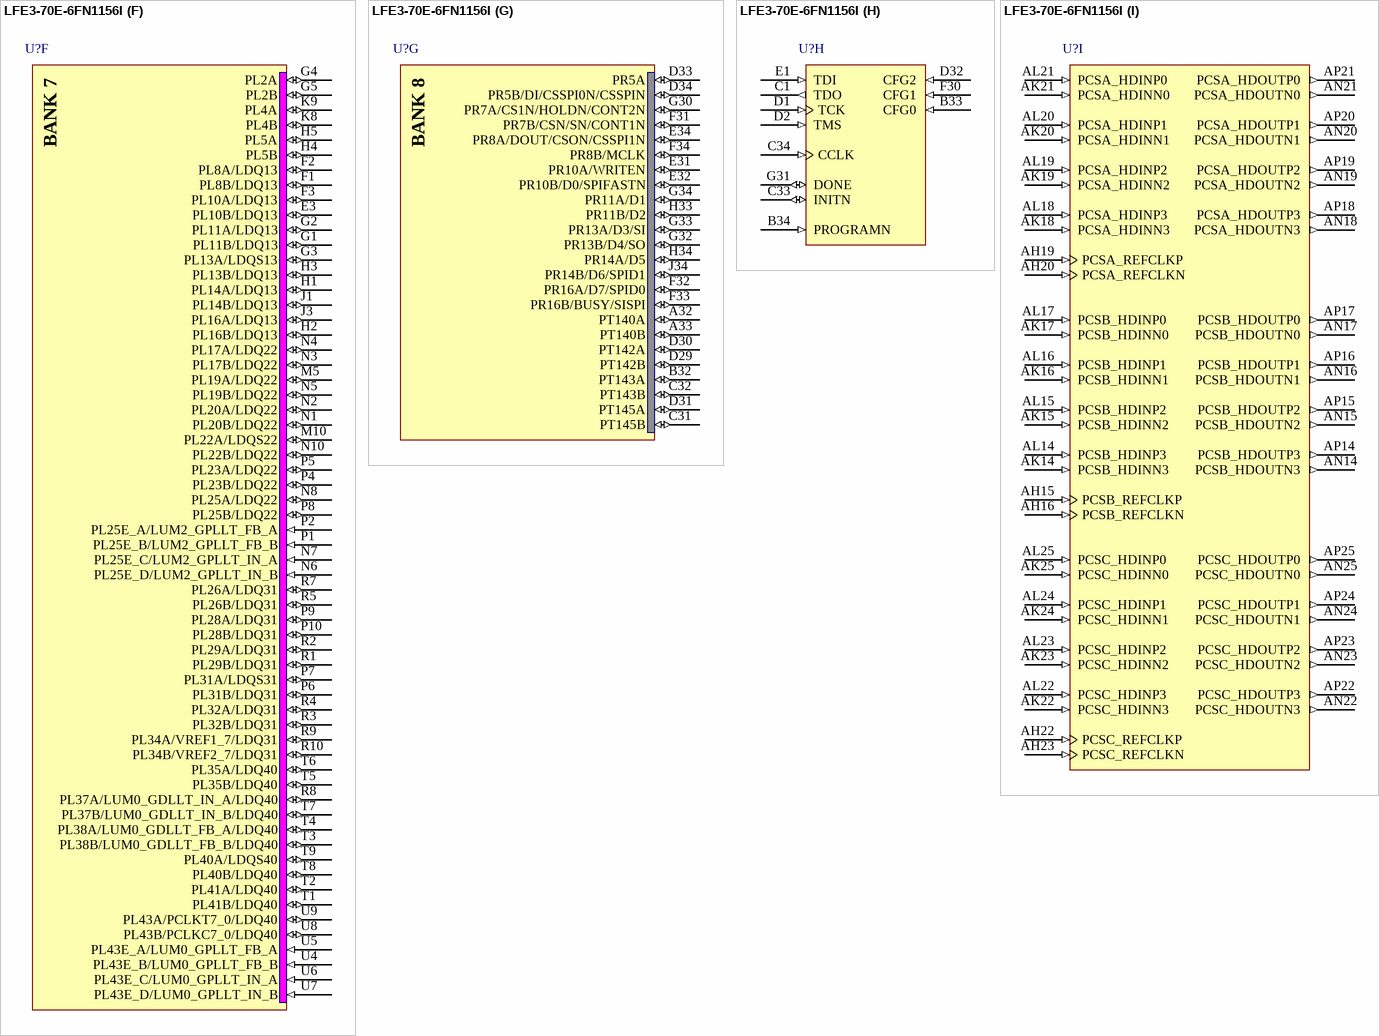
[diagram p53: symbol LFE3-70E-6FN1156I]

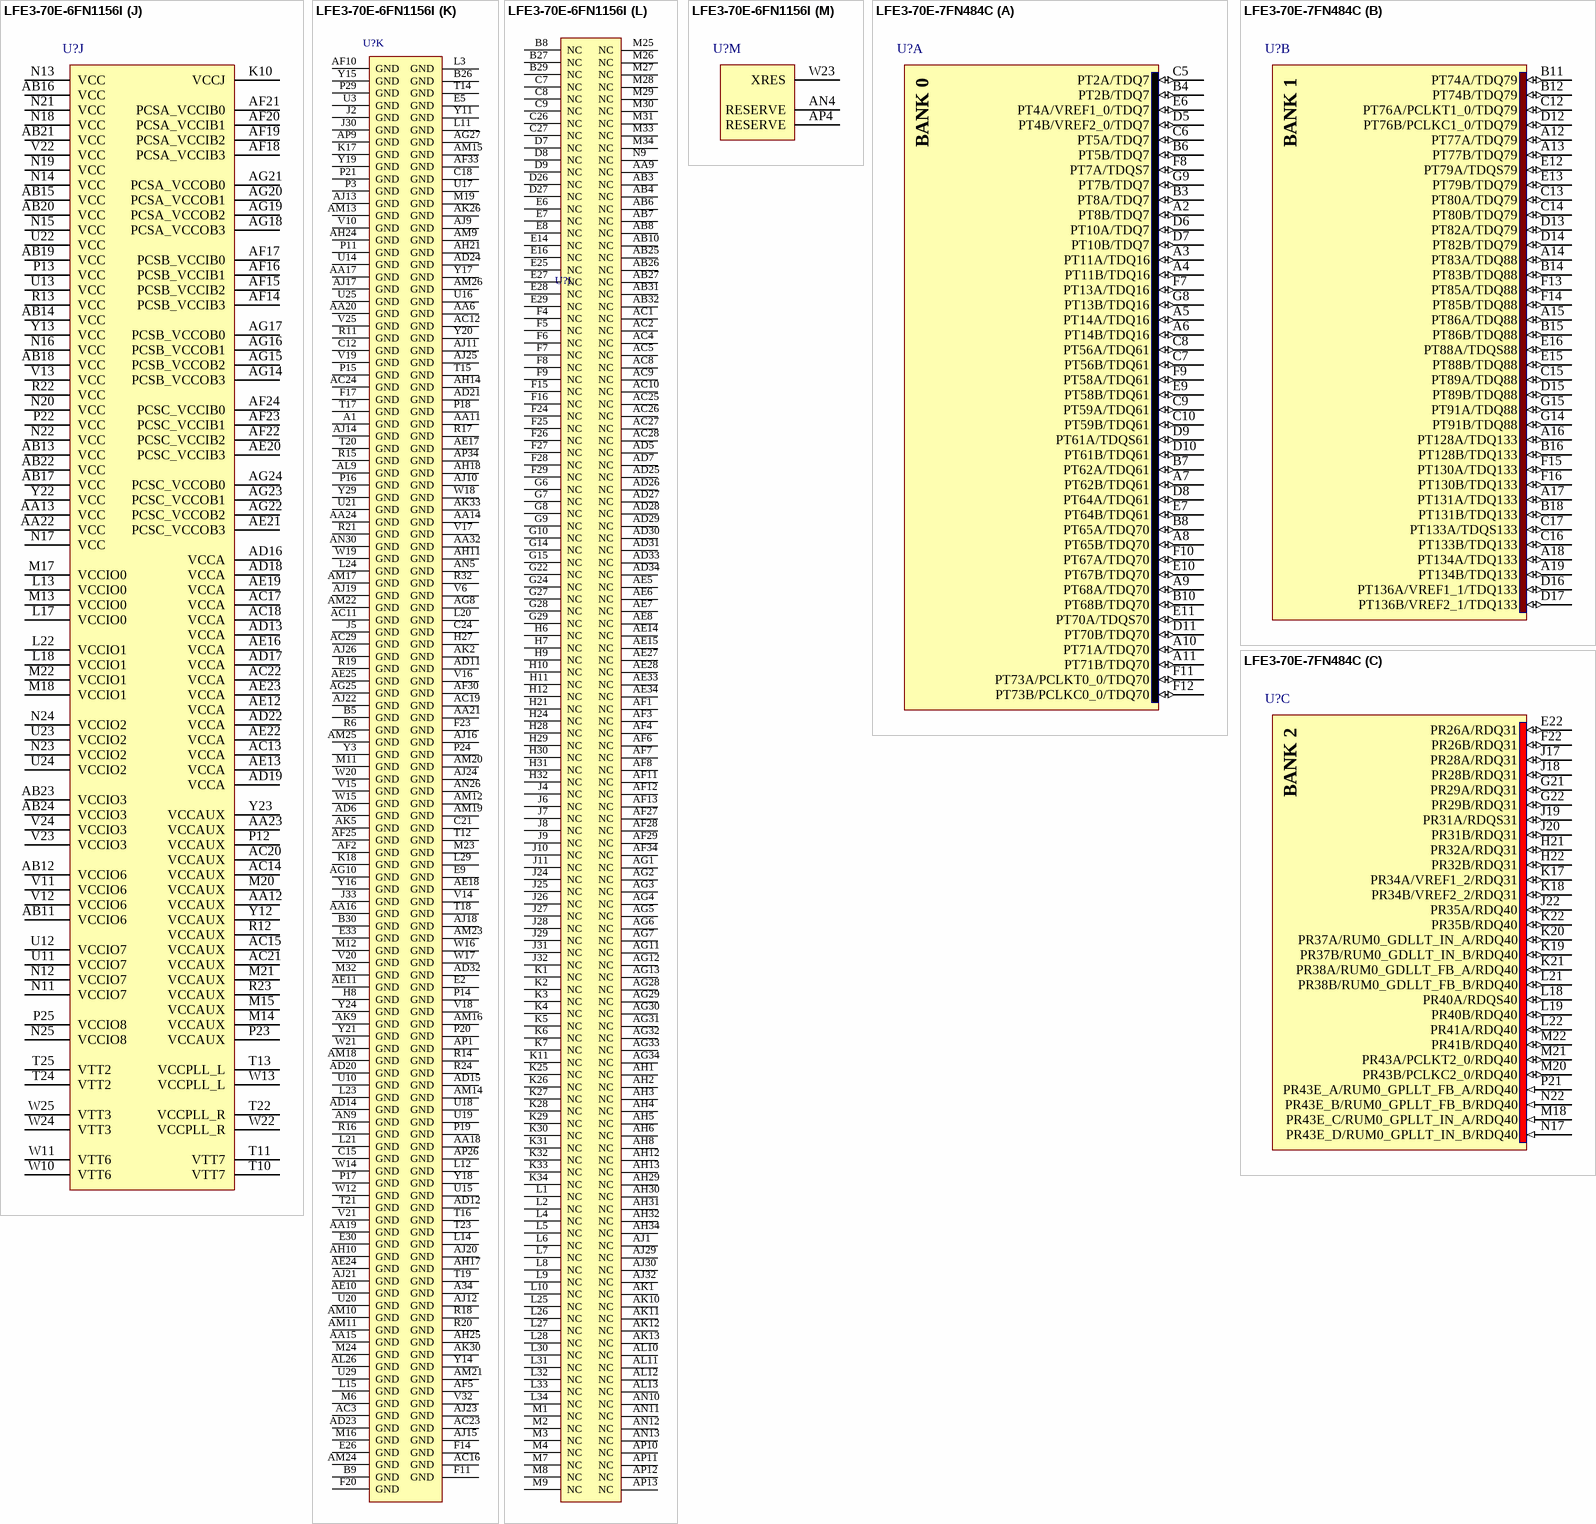
[diagram p54: symbols LFE3-70E-6FN1156I to LFE3-70E-7FN484C]

## LFE3-70E-6FN1156I
designator U?
ECP3 1.2V FPGA, 490 I/Os, 67K LUTs, 1156-Pin BGA, Speed Grade 6, Industrial Grade, Pb-Free; DatasheetVersion: Ver 01.6, Mar-2010; PackageVersion: ver02.8, Jul-2011; PackageReference: fpBGA1156; PackageDescription: 1156-Ball Fine Pitch Ball Grid Array (fpBGA1156); Code_IPC: BGA100P34X34-1156; ComponentLink1Description: Manufacturer URL; ComponentLink1URL: http://www.latticesemi.com/
footprint fpBGA1156 (BGA, 1156-Leads, Body 35x35mm, Pitch 1mm)
part A pins: A2 PT8B/TDQ7 (io), A3 PT11B/TDQ16 (io), A4 PT14A/TDQ16 (io), A5 PT14B/TDQ16 (io), A6 PT17B/TDQ16 (io), A7 PT16B/TDQ16 (io), A8 PT19A/TDQ16 (io), A9 PT19B/TDQ16 (io), A10 PT20A/TDQ25 (io), A11 PT26A/TDQ25 (io), A12 PT32A/TDQ34 (io), A13 PT41A/TDQ43 (io), A14 PT56A/TDQ61 (io), A15 PT62A/TDQ61 (io), A16 PT68A/TDQ70 (io), B1 PT5A/TDQ7 (io), B2 PT5B/TDQ7 (io), B3 PT8A/TDQ7 (io), B4 PT11A/TDQ16 (io), B6 PT17A/TDQ16 (io), B7 PT16A/TDQS16 (io), B10 PT20B/TDQ25 (io), B11 PT26B/TDQ25 (io), B12 PT32B/TDQ34 (io), B13 PT41B/TDQ43 (io), B14 PT56B/TDQ61 (io), B15 PT62B/TDQ61 (io), B16 PT68B/TDQ70 (io), C2 PT4B/VREF2_0/TDQ7 (io), C3 PT2A/TDQ7 (io), C4 PT2B/TDQ7 (io), C5 PT13B/TDQ16 (io), C6 PT10B/TDQ7 (io), C10 PT43B/TDQ43 (io), C11 PT23A/TDQ25 (io), C13 PT44A/TDQ43 (io), C14 PT50A/TDQ52 (io), C16 PT65A/TDQ70 (io), C17 PT71A/TDQ70 (io), D3 PT4A/VREF1_0/TDQ7 (io), D4 PT7B/TDQ7 (io), D5 PT10A/TDQ7 (io), D6 PT13A/TDQ16 (io), D10 PT43A/TDQS43 (io), D11 PT23B/TDQ25 (io), D12 PT35A/TDQ34 (io), D13 PT44B/TDQ43 (io), D14 PT50B/TDQ52 (io), D15 PT59A/TDQ61 (io), D16 PT65B/TDQ70 (io), D17 PT71B/TDQ70 (io), E4 PT7A/TDQS7 (io), E10 PT31B/TDQ34 (io), E11 PT29A/TDQ34 (io), E12 PT35B/TDQ34 (io), E13 PT38A/TDQ43 (io), E15 PT59B/TDQ61 (io), E17 PT64A/TDQ61 (io), F10 PT31A/TDQ34 (io), F12 PT29B/TDQ34 (io), F13 PT38B/TDQ43 (io), F18 PT64B/TDQ61 (io), F19 PT70B/TDQ70 (io), G11 PT25A/TDQS25 (io), G12 PT25B/TDQ25 (io), G13 PT40A/TDQ43 (io), G16 PT58A/TDQ61 (io), G17 PT58B/TDQ61 (io), G18 PT70A/TDQS70 (io), H13 PT34B/TDQ34 (io), H14 PT40B/TDQ43 (io), H15 PT46B/TDQ43 (io), H16 PT61B/TDQ61 (io), H17 PT73B/PCLKC0_0/TDQ70 (io), J12 PT22A/TDQ25 (io), J13 PT28B/TDQ25 (io), J14 PT34A/TDQS34 (io), J15 PT46A/TDQ43 (io), J16 PT61A/TDQS61 (io), J17 PT73A/PCLKT0_0/TDQ70 (io), K12 PT22B/TDQ25 (io), K13 PT28A/TDQ25 (io), K14 PT37A/TDQ34 (io), K15 PT37B/TDQ34 (io), K16 PT67A/TDQ70 (io), L16 PT67B/TDQ70 (io)
part B pins: A17 PT74A/TDQ79 (io), A18 PT77A/TDQ79 (io), A19 PT83A/TDQ88 (io), A20 PT89A/TDQ88 (io), A21 PT98A/TDQ97 (io), A22 PT104A/TDQ106 (io), A23 PT110A/TDQ115 (io), A24 PT116A/TDQ115 (io), A25 PT122A/TDQ124 (io), A26 PT130A/TDQ133 (io), A27 PT130B/TDQ133 (io), A28 PT128B/TDQ133 (io), A29 PT131A/TDQ133 (io), A30 PT131B/TDQ133 (io), A31 PT134A/TDQ133 (io), B17 PT74B/TDQ79 (io), B18 PT77B/TDQ79 (io), B19 PT83B/TDQ88 (io), B20 PT89B/TDQ88 (io), B21 PT98B/TDQ97 (io), B22 PT104B/TDQ106 (io), B23 PT110B/TDQ115 (io), B24 PT116B/TDQ115 (io), B25 PT122B/TDQ124 (io), B28 PT128A/TDQ133 (io), B31 PT134B/TDQ133 (io), C19 PT86A/TDQ88 (io), C20 PT95A/TDQ97 (io), C22 PT107A/TDQ106 (io), C23 PT113A/TDQ115 (io), C25 PT125A/TDQ124 (io), C28 PT124A/TDQS124 (io), C29 PT136A/VREF1_1/TDQ133 (io), C30 PT136B/VREF2_1/TDQ133 (io), D18 PT80A/TDQ79 (io), D19 PT86B/TDQ88 (io), D20 PT95B/TDQ97 (io), D21 PT101A/TDQ106 (io), D22 PT107B/TDQ106 (io), D23 PT113B/TDQ115 (io), D24 PT119A/TDQ124 (io), D25 PT125B/TDQ124 (io), D28 PT124B/TDQ124 (io), E18 PT80B/TDQ79 (io), E19 PT76A/PCLKT1_0/TDQ79 (io), E20 PT76B/PCLKC1_0/TDQ79 (io), E21 PT101B/TDQ106 (io), E22 PT112A/TDQ115 (io), E23 PT112B/TDQ115 (io), E24 PT119B/TDQ124 (io), F21 PT97A/TDQS97 (io), F22 PT97B/TDQ97 (io), G19 PT82A/TDQ79 (io), G20 PT91A/TDQ88 (io), G21 PT91B/TDQ88 (io), G23 PT118A/TDQ115 (io), G25 PT127B/TDQ124 (io), G26 PT127A/TDQ124 (io), H18 PT79B/TDQ79 (io), H19 PT82B/TDQ79 (io), H20 PT103A/TDQ106 (io), H22 PT109B/TDQ106 (io), H23 PT118B/TDQ115 (io), H25 PT133B/TDQ133 (io), H26 PT133A/TDQS133 (io), J18 PT79A/TDQS79 (io), J19 PT88A/TDQS88 (io), J20 PT103B/TDQ106 (io), J21 PT109A/TDQ106 (io), J22 PT106A/TDQS106 (io), J23 PT106B/TDQ106 (io), K19 PT88B/TDQ88 (io), K20 PT85A/TDQ88 (io), K21 PT115B/TDQ115 (io), K22 PT115A/TDQS115 (io), K23 PT121A/TDQ124 (io), K24 PT121B/TDQ124 (io), L19 PT85B/TDQ88 (io)
part C pins: N26 PR19A/RDQ22 (io), N27 PR22A/RDQS22 (io), N28 PR22B/RDQ22 (io), N29 PR17B/RDQ22 (io), N30 PR17A/RDQ22 (io), N31 PR20B/RDQ22 (io), N32 PR20A/RDQ22 (io), N33 PR23B/RDQ22 (io), N34 PR23A/RDQ22 (io), P26 PR19B/RDQ22 (io), P27 PR25B/RDQ22 (io), P28 PR25A/RDQ22 (io), P30 PR25E_C/RUM2_GPLLT_IN_A/RDQ22 (in), P31 PR25E_B/RUM2_GPLLT_FB_B/RDQ22 (in), P32 PR25E_A/RUM2_GPLLT_FB_A/RDQ22 (in), P33 PR26B/RDQ31 (io), P34 PR26A/RDQ31 (io), R25 PR31B/RDQ31 (io), R26 PR31A/RDQS31 (io), R27 PR28B/RDQ31 (io), R28 PR28A/RDQ31 (io), R29 PR25E_D/RUM2_GPLLT_IN_B/RDQ22 (in), R30 PR29B/RDQ31 (io), R31 PR29A/RDQ31 (io), R33 PR32B/RDQ31 (io), R34 PR32A/RDQ31 (io), T26 PR37A/RUM0_GDLLT_IN_A/RDQ40 (io), T27 PR37B/RUM0_GDLLT_IN_B/RDQ40 (io), T28 PR34B/VREF2_2/RDQ31 (io), T29 PR34A/VREF1_2/RDQ31 (io), T30 PR40A/RDQS40 (io), T31 PR35B/RDQ40 (io), T32 PR35A/RDQ40 (io), T33 PR38B/RUM0_GDLLT_FB_B/RDQ40 (io), T34 PR38A/RUM0_GDLLT_FB_A/RDQ40 (io), U26 PR43A/PCLKT2_0/RDQ40 (io), U27 PR43B/PCLKC2_0/RDQ40 (io), U30 PR40B/RDQ40 (io), U31 PR41B/RDQ40 (io), U32 PR41A/RDQ40 (io), U33 PR43E_B/RUM0_GPLLT_FB_B/RDQ40 (in), U34 PR43E_A/RUM0_GPLLT_FB_A/RDQ40 (in), V33 PR43E_D/RUM0_GPLLT_IN_B/RDQ40 (in), V34 PR43E_C/RUM0_GPLLT_IN_A/RDQ40 (in)
part D pins: AA25 PR64A/RDQ67 (io), AA26 PR64B/RDQ67 (io), AA27 PR70B/RDQ67 (io), AA28 PR70A/RDQ67 (io), AA29 PR58B/RDQ58 (io), AA30 PR65B/RDQ67 (io), AA31 PR65A/RDQ67 (io), AA33 PR61E_B/RLM1_GPLLT_FB_B/RDQ58 (in), AA34 PR61E_A/RLM1_GPLLT_FB_A/RDQ58 (in), AB28 PR70E_C/RLM2_GPLLT_IN_A/RDQ67 (in), AB29 PR70E_D/RLM2_GPLLT_IN_B/RDQ67 (in), AB30 PR67A/RDQS67 (io), AB33 PR62B/RDQ67 (io), AB34 PR62A/RDQ67 (io), AC30 PR67B/RDQ67 (io), AC31 PR70E_B/RLM2_GPLLT_FB_B/RDQ67 (in), AC32 PR70E_A/RLM2_GPLLT_FB_A/RDQ67 (in), AC33 PR68B/RDQ67 (io), AC34 PR68A/RDQ67 (io), AE26 PB145B (io), AE29 PR74B/RDQ76 (io), AE30 PR74A/RDQ76 (io), AE31 PR71B/RDQ76 (io), AE32 PR71A/RDQ76 (io), AF26 PB145A (io), AF31 PR77B/RDQ76 (io), AF32 PR77A/RDQ76 (io), AG26 PB136B (io), AH26 PB136A (io), AH27 PB142A (io), AH28 PB142B (io), AH33 PR82A/RDQ85 (io), AJ27 PB139B (io), AJ28 PB140B (io), AJ31 PR88A/RDQ85 (io), AJ33 PR82B/RDQ85 (io), AJ34 PR79E_C/RLM3_GPLLT_IN_A/RDQ76 (in), AK27 PB139A (io), AK28 PB140A (io), AK29 PB143B (io), AK31 PR88B/RDQ85 (io), AK32 PR86B/RDQ85 (io), AK34 PR79E_D/RLM3_GPLLT_IN_B/RDQ76 (in), AL27 PB134B (io), AL28 PB137B (io), AL29 PB143A (io), AL30 PR91A/RDQ94 (io), AL31 PR95A/RDQ94 (io), AL32 PR86A/RDQ85 (io), AL33 PR85B/RDQ85 (io), AL34 PR85A/RDQS85 (io), AM27 PB134A (io), AM28 PB137A (io), AM29 PR97A/RDQ94 (io), AM30 PR91B/RDQ94 (io), AM31 PR95B/RDQ94 (io), AM32 PR89B/RDQ94 (io), AM33 PR79E_B/RLM3_GPLLT_FB_B/RDQ76 (in), AM34 PR79E_A/RLM3_GPLLT_FB_A/RDQ76 (in), AN27 PB133B (io), AN28 PB131B (io), AN29 PR97B/RDQ94 (io), AN31 PR92B/RDQ94 (io), AN32 PR89A/RDQ94 (io), AN33 PR80B/RDQ85 (io), AN34 PR80A/RDQ85 (io), AP27 PB133A (io), AP28 PB131A (io), AP29 PR94A/RDQS94 (io), AP30 PR94B/RDQ94 (io), AP31 PR92A/RDQ94 (io), AP32 PR83B/RDQ85 (io), AP33 PR83A/RDQ85 (io), U28 PR46A/PCLKT3_0/RDQ49 (io), V26 PR49B/RDQ49 (io), V27 PR49A/RDQS49 (io), V28 PR46B/PCLKC3_0/RDQ49 (io), V29 PR52A/VREF1_3/RDQ49 (io), V30 PR44B/RDQ49 (io), V31 PR44A/RDQ49 (io), W26 PR55B/RDQ58 (io), W27 PR55A/RDQ58 (io), W28 PR52B/VREF2_3/RDQ49 (io), W29 PR53B/RDQ58 (io), W30 PR53A/RDQ58 (io), W31 PR50B/RDQ49 (io), W32 PR50A/RDQ49 (io), W33 PR47B/RDQ49 (io), W34 PR47A/RDQ49 (io), Y25 PR61B/RDQ58 (io), Y26 PR61A/RDQ58 (io), Y27 PR61E_D/RLM1_GPLLT_IN_B/RDQ58 (in), Y28 PR61E_C/RLM1_GPLLT_IN_A/RDQ58 (in), Y30 PR58A/RDQS58 (io), Y31 PR59B/RDQ58 (io), Y32 PR59A/RDQ58 (io), Y33 PR56B/RDQ58 (io), Y34 PR56A/RDQ58 (io)
part E pins: AA1 PL62B/LDQ67 (io), AA2 PL62A/LDQ67 (io), AA3 PL65B/LDQ67 (io), AA4 PL65A/LDQ67 (io), AA5 PL70A/LDQ67 (io), AA7 PL64B/LDQ67 (io), AA8 PL61B/LDQ58 (io), AA10 PL67A/LDQS67 (io), AB1 PL68B/LDQ67 (io), AB2 PL68A/LDQ67 (io), AB5 PL70B/LDQ67 (io), AB9 PL67B/LDQ67 (io), AC6 PL70E_C/LLM2_GPLLT_IN_A (in), AC7 PL70E_D/LLM2_GPLLT_IN_B (in), AD1 PL70E_B/LLM2_GPLLT_FB_B (in), AD2 PL70E_A/LLM2_GPLLT_FB_A (in), AD3 PL71B/LDQ76 (io), AD4 PL71A/LDQ76 (io), AD8 PL82B/LDQ85 (io), AD9 PL82A/LDQ85 (io), AD10 PB4B (io), AE1 PL74B/LDQ76 (io), AE2 PL74A/LDQ76 (io), AE3 PL77B/LDQ76 (io), AE4 PL77A/LDQ76 (io), AE9 PB4A (io), AF9 PB7A (io), AG9 PB7B (io), AH7 PB2A (io), AH9 PB13A (io), AJ2 PL85A/LDQS85 (io), AJ3 PL85B/LDQ85 (io), AJ4 PL88A/LDQ85 (io), AJ5 PL91A/LDQ94 (io), AJ6 PL91B/LDQ94 (io), AJ7 PB2B (io), AJ8 PB13B (io), AK3 PL86B/LDQ85 (io), AK4 PL88B/LDQ85 (io), AK6 PB5A (io), AK7 PB8A (io), AK8 PB10A (io), AL1 PL79E_C/LLM3_GPLLT_IN_A (in), AL2 PL79E_D/LLM3_GPLLT_IN_B (in), AL3 PL86A/LDQ85 (io), AL4 PL95A/LDQ94 (io), AL5 PL92A/LDQ94 (io), AL6 PB5B (io), AL7 PB8B (io), AL8 PB10B (io), AM1 PL79E_A/LLM3_GPLLT_FB_A (in), AM2 PL79E_B/LLM3_GPLLT_FB_B (in), AM3 PL89B/LDQ94 (io), AM4 PL95B/LDQ94 (io), AM5 PL92B/LDQ94 (io), AM6 PL94A/LDQS94 (io), AM7 PB11A (io), AM8 PB11B (io), AN1 PL80A/LDQ85 (io), AN2 PL80B/LDQ85 (io), AN3 PL89A/LDQ94 (io), AN6 PL94B/LDQ94 (io), AN7 PB14A (io), AN8 PB16A (io), AP2 PL83A/LDQ85 (io), AP3 PL83B/LDQ85 (io), AP5 PL97A/LDQ94 (io), AP6 PL97B/LDQ94 (io), AP7 PB14B (io), AP8 PB16B (io), U1 PL44B/LDQ49 (io), U2 PL44A/LDQ49 (io), V1 PL47B/LDQ49 (io), V2 PL47A/LDQ49 (io), V3 PL50B/LDQ49 (io), V4 PL50A/LDQ49 (io), V5 PL49A/LDQS49 (io), V7 PL52A/VREF1_6/LDQ49 (io), V8 PL46B/PCLKC6_0/LDQ49 (io), V9 PL46A/PCLKT6_0/LDQ49 (io), W1 PL53B/LDQ58 (io), W2 PL53A/LDQ58 (io), W3 PL56B/LDQ58 (io), W4 PL56A/LDQ58 (io), W5 PL49B/LDQ49 (io), W6 PL58A/LDQS58 (io), W7 PL52B/VREF2_6/LDQ49 (io), W8 PL55A/LDQ58 (io), W9 PL55B/LDQ58 (io), Y1 PL59B/LDQ58 (io), Y2 PL59A/LDQ58 (io), Y4 PL61E_B/LLM1_GPLLT_FB_B (in), Y5 PL61E_A/LLM1_GPLLT_FB_A (in), Y6 PL58B/LDQ58 (io), Y7 PL64A/LDQ67 (io), Y8 PL61A/LDQ58 (io), Y9 PL61E_C/LLM1_GPLLT_IN_A (in), Y10 PL61E_D/LLM1_GPLLT_IN_B (in)
part F pins: E3 PL10B/LDQ13 (io), F1 PL8B/LDQ13 (io), F2 PL8A/LDQ13 (io), F3 PL10A/LDQ13 (io), G1 PL11B/LDQ13 (io), G2 PL11A/LDQ13 (io), G3 PL13A/LDQS13 (io), G4 PL2A (io), G5 PL2B (io), H1 PL14A/LDQ13 (io), H2 PL16B/LDQ13 (io), H3 PL13B/LDQ13 (io), H4 PL5B (io), H5 PL5A (io), J1 PL14B/LDQ13 (io), J3 PL16A/LDQ13 (io), K8 PL4B (io), K9 PL4A (io), M5 PL19A/LDQ22 (io), M10 PL22A/LDQS22 (io), N1 PL20B/LDQ22 (io), N2 PL20A/LDQ22 (io), N3 PL17B/LDQ22 (io), N4 PL17A/LDQ22 (io), N5 PL19B/LDQ22 (io), N6 PL25E_D/LUM2_GPLLT_IN_B (in), N7 PL25E_C/LUM2_GPLLT_IN_A (in), N8 PL25A/LDQ22 (io), N10 PL22B/LDQ22 (io), P1 PL25E_B/LUM2_GPLLT_FB_B (in), P2 PL25E_A/LUM2_GPLLT_FB_A (in), P4 PL23B/LDQ22 (io), P5 PL23A/LDQ22 (io), P6 PL31B/LDQ31 (io), P7 PL31A/LDQS31 (io), P8 PL25B/LDQ22 (io), P9 PL28A/LDQ31 (io), P10 PL28B/LDQ31 (io), R1 PL29B/LDQ31 (io), R2 PL29A/LDQ31 (io), R3 PL32B/LDQ31 (io), R4 PL32A/LDQ31 (io), R5 PL26B/LDQ31 (io), R7 PL26A/LDQ31 (io), R8 PL37A/LUM0_GDLLT_IN_A/LDQ40 (io), R9 PL34A/VREF1_7/LDQ31 (io), R10 PL34B/VREF2_7/LDQ31 (io), T1 PL41B/LDQ40 (io), T2 PL41A/LDQ40 (io), T3 PL38B/LUM0_GDLLT_FB_B/LDQ40 (io), T4 PL38A/LUM0_GDLLT_FB_A/LDQ40 (io), T5 PL35B/LDQ40 (io), T6 PL35A/LDQ40 (io), T7 PL37B/LUM0_GDLLT_IN_B/LDQ40 (io), T8 PL40B/LDQ40 (io), T9 PL40A/LDQS40 (io), U4 PL43E_B/LUM0_GPLLT_FB_B (in), U5 PL43E_A/LUM0_GPLLT_FB_A (in), U6 PL43E_C/LUM0_GPLLT_IN_A (in), U7 PL43E_D/LUM0_GPLLT_IN_B (in), U8 PL43B/PCLKC7_0/LDQ40 (io), U9 PL43A/PCLKT7_0/LDQ40 (io)
part G pins: A32 PT140A (io), A33 PT140B (io), B32 PT143A (io), C31 PT145B (io), C32 PT143B (io), D29 PT142B (io), D30 PT142A (io), D31 PT145A (io), D33 PR5A (io), D34 PR5B/DI/CSSPI0N/CSSPIN (io), E31 PR10A/WRITEN (io), E32 PR10B/D0/SPIFASTN (io), E34 PR8A/DOUT/CSON/CSSPI1N (io), F31 PR7B/CSN/SN/CONT1N (io), F32 PR16A/D7/SPID0 (io), F33 PR16B/BUSY/SISPI (io), F34 PR8B/MCLK (io), G30 PR7A/CS1N/HOLDN/CONT2N (io), G32 PR13B/D4/SO (io), G33 PR13A/D3/SI (io), G34 PR11A/D1 (io), H33 PR11B/D2 (io), H34 PR14A/D5 (io), J34 PR14B/D6/SPID1 (io)
part H pins: B33 CFG0 (in), B34 PROGRAMN (in), C1 TDO (out), C33 INITN (io), C34 CCLK (in), D1 TCK (in), D2 TMS (in), D32 CFG2 (in), E1 TDI (in), F30 CFG1 (in), G31 DONE (io)
part I pins: AH15 PCSB_REFCLKP (in), AH16 PCSB_REFCLKN (in), AH19 PCSA_REFCLKP (in), AH20 PCSA_REFCLKN (in), AH22 PCSC_REFCLKP (in), AH23 PCSC_REFCLKN (in), AK14 PCSB_HDINN3 (in), AK15 PCSB_HDINN2 (in), AK16 PCSB_HDINN1 (in), AK17 PCSB_HDINN0 (in), AK18 PCSA_HDINN3 (in), AK19 PCSA_HDINN2 (in), AK20 PCSA_HDINN1 (in), AK21 PCSA_HDINN0 (in), AK22 PCSC_HDINN3 (in), AK23 PCSC_HDINN2 (in), AK24 PCSC_HDINN1 (in), AK25 PCSC_HDINN0 (in), AL14 PCSB_HDINP3 (in), AL15 PCSB_HDINP2 (in), AL16 PCSB_HDINP1 (in), AL17 PCSB_HDINP0 (in), AL18 PCSA_HDINP3 (in), AL19 PCSA_HDINP2 (in), AL20 PCSA_HDINP1 (in), AL21 PCSA_HDINP0 (in), AL22 PCSC_HDINP3 (in), AL23 PCSC_HDINP2 (in), AL24 PCSC_HDINP1 (in), AL25 PCSC_HDINP0 (in), AN14 PCSB_HDOUTN3 (out), AN15 PCSB_HDOUTN2 (out), AN16 PCSB_HDOUTN1 (out), AN17 PCSB_HDOUTN0 (out), AN18 PCSA_HDOUTN3 (out), AN19 PCSA_HDOUTN2 (out), AN20 PCSA_HDOUTN1 (out), AN21 PCSA_HDOUTN0 (out), AN22 PCSC_HDOUTN3 (out), AN23 PCSC_HDOUTN2 (out), AN24 PCSC_HDOUTN1 (out), AN25 PCSC_HDOUTN0 (out), AP14 PCSB_HDOUTP3 (out), AP15 PCSB_HDOUTP2 (out), AP16 PCSB_HDOUTP1 (out), AP17 PCSB_HDOUTP0 (out), AP18 PCSA_HDOUTP3 (out), AP19 PCSA_HDOUTP2 (out), AP20 PCSA_HDOUTP1 (out), AP21 PCSA_HDOUTP0 (out), AP22 PCSC_HDOUTP3 (out), AP23 PCSC_HDOUTP2 (out), AP24 PCSC_HDOUTP1 (out), AP25 PCSC_HDOUTP0 (out)
part J pins: AA12 VCCAUX (power), AA13 VCC (power), AA22 VCC (power), AA23 VCCAUX (power), AB11 VCCIO6 (power), AB12 VCCIO6 (power), AB13 VCC (power), AB14 VCC (power), AB15 VCC (power), AB16 VCC (power), AB17 VCC (power), AB18 VCC (power), AB19 VCC (power), AB20 VCC (power), AB21 VCC (power), AB22 VCC (power), AB23 VCCIO3 (power), AB24 VCCIO3 (power), AC13 VCCA (power), AC14 VCCAUX (power), AC15 VCCAUX (power), AC17 VCCA (power), AC18 VCCA (power), AC20 VCCAUX (power), AC21 VCCAUX (power), AC22 VCCA (power), AD13 VCCA (power), AD16 VCCA (power), AD17 VCCA (power), AD18 VCCA (power), AD19 VCCA (power), AD22 VCCA (power), AE12 VCCA (power), AE13 VCCA (power), AE16 VCCA (power), AE19 VCCA (power), AE20 PCSC_VCCIB3 (power), AE21 PCSC_VCCOB3 (power), AE22 VCCA (power), AE23 VCCA (power), AF14 PCSB_VCCIB3 (power), AF15 PCSB_VCCIB2 (power), AF16 PCSB_VCCIB1 (power), AF17 PCSB_VCCIB0 (power), AF18 PCSA_VCCIB3 (power), AF19 PCSA_VCCIB2 (power), AF20 PCSA_VCCIB1 (power), AF21 PCSA_VCCIB0 (power), AF22 PCSC_VCCIB2 (power), AF23 PCSC_VCCIB1 (power), AF24 PCSC_VCCIB0 (power), AG14 PCSB_VCCOB3 (power), AG15 PCSB_VCCOB2 (power), AG16 PCSB_VCCOB1 (power), AG17 PCSB_VCCOB0 (power), AG18 PCSA_VCCOB3 (power), AG19 PCSA_VCCOB2 (power), AG20 PCSA_VCCOB1 (power), AG21 PCSA_VCCOB0 (power), AG22 PCSC_VCCOB2 (power), AG23 PCSC_VCCOB1 (power), AG24 PCSC_VCCOB0 (power), K10 VCCJ (power), L13 VCCIO0 (power), L17 VCCIO0 (power), L18 VCCIO1 (power), L22 VCCIO1 (power), M13 VCCIO0 (power), M14 VCCAUX (power), M15 VCCAUX (power), M17 VCCIO0 (power), M18 VCCIO1 (power), M20 VCCAUX (power), M21 VCCAUX (power), M22 VCCIO1 (power), N11 VCCIO7 (power), N12 VCCIO7 (power), N13 VCC (power), N14 VCC (power), N15 VCC (power), N16 VCC (power), N17 VCC (power), N18 VCC (power), N19 VCC (power), N20 VCC (power), N21 VCC (power), N22 VCC (power), N23 VCCIO2 (power), N24 VCCIO2 (power), N25 VCCIO8 (power), P12 VCCAUX (power), P13 VCC (power), P22 VCC (power), P23 VCCAUX (power), P25 VCCIO8 (power), R12 VCCAUX (power), R13 VCC (power), R22 VCC (power), R23 VCCAUX (power), T10 VTT7 (power), T11 VTT7 (power), T13 VCCPLL_L (power), T22 VCCPLL_R (power), T24 VTT2 (power), T25 VTT2 (power), U11 VCCIO7 (power), U12 VCCIO7 (power), U13 VCC (power), U22 VCC (power), U23 VCCIO2 (power), U24 VCCIO2 (power), V11 VCCIO6 (power), V12 VCCIO6 (power), V13 VCC (power), V22 VCC (power), V23 VCCIO3 (power), V24 VCCIO3 (power), W10 VTT6 (power), W11 VTT6 (power), W13 VCCPLL_L (power), W22 VCCPLL_R (power), W24 VTT3 (power), W25 VTT3 (power), Y12 VCCAUX (power), Y13 VCC (power), Y22 VCC (power), Y23 VCCAUX (power)
part K pins: A1 GND (power), A34 GND (power), AA6 GND (power), AA11 GND (power), AA14 GND (power), AA15 GND (power), AA16 GND (power), AA17 GND (power), AA18 GND (power), AA19 GND (power), AA20 GND (power), AA21 GND (power), AA24 GND (power), AA32 GND (power), AC3 GND (power), AC11 GND (power), AC12 GND (power), AC16 GND (power), AC19 GND (power), AC23 GND (power), AC24 GND (power), AC29 GND (power), AD6 GND (power), AD11 GND (power), AD12 GND (power), AD14 GND (power), AD15 GND (power), AD20 GND (power), AD21 GND (power), AD23 GND (power), AD24 GND (power), AD32 GND (power), AE10 GND (power), AE11 GND (power), AE17 GND (power), AE18 GND (power), AE24 GND (power), AE25 GND (power), AF2 GND (power), AF5 GND (power), AF10 GND (power), AF25 GND (power), AF30 GND (power), AF33 GND (power), AG8 GND (power), AG10 GND (power), AG25 GND (power), AG27 GND (power), AH10 GND (power), AH11 GND (power), AH14 GND (power), AH17 GND (power), AH18 GND (power), AH21 GND (power), AH24 GND (power), AH25 GND (power), AJ9 GND (power), AJ10 GND (power), AJ11 GND (power), AJ12 GND (power), AJ13 GND (power), AJ14 GND (power), AJ15 GND (power), AJ16 GND (power), AJ17 GND (power), AJ18 GND (power), AJ19 GND (power), AJ20 GND (power), AJ21 GND (power), AJ22 GND (power), AJ23 GND (power), AJ24 GND (power), AJ25 GND (power), AJ26 GND (power), AK2 GND (power), AK5 GND (power), AK9 GND (power), AK26 GND (power), AK30 GND (power), AK33 GND (power), AL9 GND (power), AL26 GND (power), AM9 GND (power), AM10 GND (power), AM11 GND (power), AM12 GND (power), AM13 GND (power), AM14 GND (power), AM15 GND (power), AM16 GND (power), AM17 GND (power), AM18 GND (power), AM19 GND (power), AM20 GND (power), AM21 GND (power), AM22 GND (power), AM23 GND (power), AM24 GND (power), AM25 GND (power), AM26 GND (power), AN5 GND (power), AN9 GND (power), AN26 GND (power), AN30 GND (power), AP1 GND (power), AP9 GND (power), AP26 GND (power), AP34 GND (power), B5 GND (power), B9 GND (power), B26 GND (power), B30 GND (power), C12 GND (power), C15 GND (power), C18 GND (power), C21 GND (power), C24 GND (power), E2 GND (power), E5 GND (power), E9 GND (power), E26 GND (power), E30 GND (power), E33 GND (power), F11 GND (power), F14 GND (power), F17 GND (power), F20 GND (power), F23 GND (power), H8 GND (power), H27 GND (power), J2 GND (power), J5 GND (power), J30 GND (power), J33 GND (power), K17 GND (power), K18 GND (power), L3 GND (power), L11 GND (power), L12 GND (power), L14 GND (power), L15 GND (power), L20 GND (power), L21 GND (power), L23 GND (power), L24 GND (power), L29 GND (power), M6 GND (power), M11 GND (power), M12 GND (power), M16 GND (power), M19 GND (power), M23 GND (power), M24 GND (power), M32 GND (power), P3 GND (power), P11 GND (power), P14 GND (power), P15 GND (power), P16 GND (power), P17 GND (power), P18 GND (power), P19 GND (power), P20 GND (power), P21 GND (power), P24 GND (power), P29 GND (power), R6 GND (power), R11 GND (power), R14 GND (power), R15 GND (power), R16 GND (power), R17 GND (power), R18 GND (power), R19 GND (power), R20 GND (power), R21 GND (power), R24 GND (power), R32 GND (power), T12 GND (power), T14 GND (power), T15 GND (power), T16 GND (power), T17 GND (power), T18 GND (power), T19 GND (power), T20 GND (power), T21 GND (power), T23 GND (power), U3 GND (power), U10 GND (power), U14 GND (power), U15 GND (power), U16 GND (power), U17 GND (power), U18 GND (power), U19 GND (power), U20 GND (power), U21 GND (power), U25 GND (power), U29 GND (power), V6 GND (power), V10 GND (power), V14 GND (power), V15 GND (power), V16 GND (power), V17 GND (power), V18 GND (power), V19 GND (power), V20 GND (power), V21 GND (power), V25 GND (power), V32 GND (power), W12 GND (power), W14 GND (power), W15 GND (power), W16 GND (power), W17 GND (power), W18 GND (power), W19 GND (power), W20 GND (power), W21 GND (power), Y3 GND (power), Y11 GND (power), Y14 GND (power), Y15 GND (power), Y16 GND (power), Y17 GND (power), Y18 GND (power), Y19 GND (power), Y20 GND (power), Y21 GND (power), Y24 GND (power), Y29 GND (power)
part L pins: AA9 NC, AB3 NC, AB4 NC, AB6 NC, AB7 NC, AB8 NC, AB10 NC, AB25 NC, AB26 NC, AB27 NC, AB31 NC, AB32 NC, AC1 NC, AC2 NC, AC4 NC, AC5 NC, AC8 NC, AC9 NC, AC10 NC, AC25 NC, AC26 NC, AC27 NC, AC28 NC, AD5 NC, AD7 NC, AD25 NC, AD26 NC, AD27 NC, AD28 NC, AD29 NC, AD30 NC, AD31 NC, AD33 NC, AD34 NC, AE5 NC, AE6 NC, AE7 NC, AE8 NC, AE14 NC, AE15 NC, AE27 NC, AE28 NC, AE33 NC, AE34 NC, AF1 NC, AF3 NC, AF4 NC, AF6 NC, AF7 NC, AF8 NC, AF11 NC, AF12 NC, AF13 NC, AF27 NC, AF28 NC, AF29 NC, AF34 NC, AG1 NC, AG2 NC, AG3 NC, AG4 NC, AG5 NC, AG6 NC, AG7 NC, AG11 NC, AG12 NC, AG13 NC, AG28 NC, AG29 NC, AG30 NC, AG31 NC, AG32 NC, AG33 NC, AG34 NC, AH1 NC, AH2 NC, AH3 NC, AH4 NC, AH5 NC, AH6 NC, AH8 NC, AH12 NC, AH13 NC, AH29 NC, AH30 NC, AH31 NC, AH32 NC, AH34 NC, AJ1 NC, AJ29 NC, AJ30 NC, AJ32 NC, AK1 NC, AK10 NC, AK11 NC, AK12 NC, AK13 NC, AL10 NC, AL11 NC, AL12 NC, AL13 NC, AN10 NC, AN11 NC, AN12 NC, AN13 NC, AP10 NC, AP11 NC, AP12 NC, AP13 NC, B8 NC, B27 NC, B29 NC, C7 NC, C8 NC, C9 NC, C26 NC, C27 NC, D7 NC, D8 NC, D9 NC, D26 NC, D27 NC, E6 NC, E7 NC, E8 NC, E14 NC, E16 NC, E25 NC, E27 NC, E28 NC, E29 NC, F4 NC, F5 NC, F6 NC, F7 NC, F8 NC, F9 NC, F15 NC, F16 NC, F24 NC, F25 NC, F26 NC, F27 NC, F28 NC, F29 NC, G6 NC, G7 NC, G8 NC, G9 NC, G10 NC, G14 NC, G15 NC, G22 NC, G24 NC, G27 NC, G28 NC, G29 NC, H6 NC, H7 NC, H9 NC, H10 NC, H11 NC, H12 NC, H21 NC, H24 NC, H28 NC, H29 NC, H30 NC, H31 NC, H32 NC, J4 NC, J6 NC, J7 NC, J8 NC, J9 NC, J10 NC, J11 NC, J24 NC, J25 NC, J26 NC, J27 NC, J28 NC, J29 NC, J31 NC, J32 NC, K1 NC, K2 NC, K3 NC, K4 NC, K5 NC, K6 NC, K7 NC, K11 NC, K25 NC, K26 NC, K27 NC, K28 NC, K29 NC, K30 NC, K31 NC, K32 NC, K33 NC, K34 NC, L1 NC, L2 NC, L4 NC, L5 NC, L6 NC, L7 NC, L8 NC, L9 NC, L10 NC, L25 NC, L26 NC, L27 NC, L28 NC, L30 NC, L31 NC, L32 NC, L33 NC, L34 NC, M1 NC, M2 NC, M3 NC, M4 NC, M7 NC, M8 NC, M9 NC, M25 NC, M26 NC, M27 NC, M28 NC, M29 NC, M30 NC, M31 NC, M33 NC, M34 NC, N9 NC
part M pins: AN4 RESERVE, AP4 RESERVE, W23 XRES
part A text: BANK 0
part B text: BANK 1
part C text: BANK 2
part D text: BANK 3
part E text: BANK 6
part F text: BANK 7
part G text: BANK 8

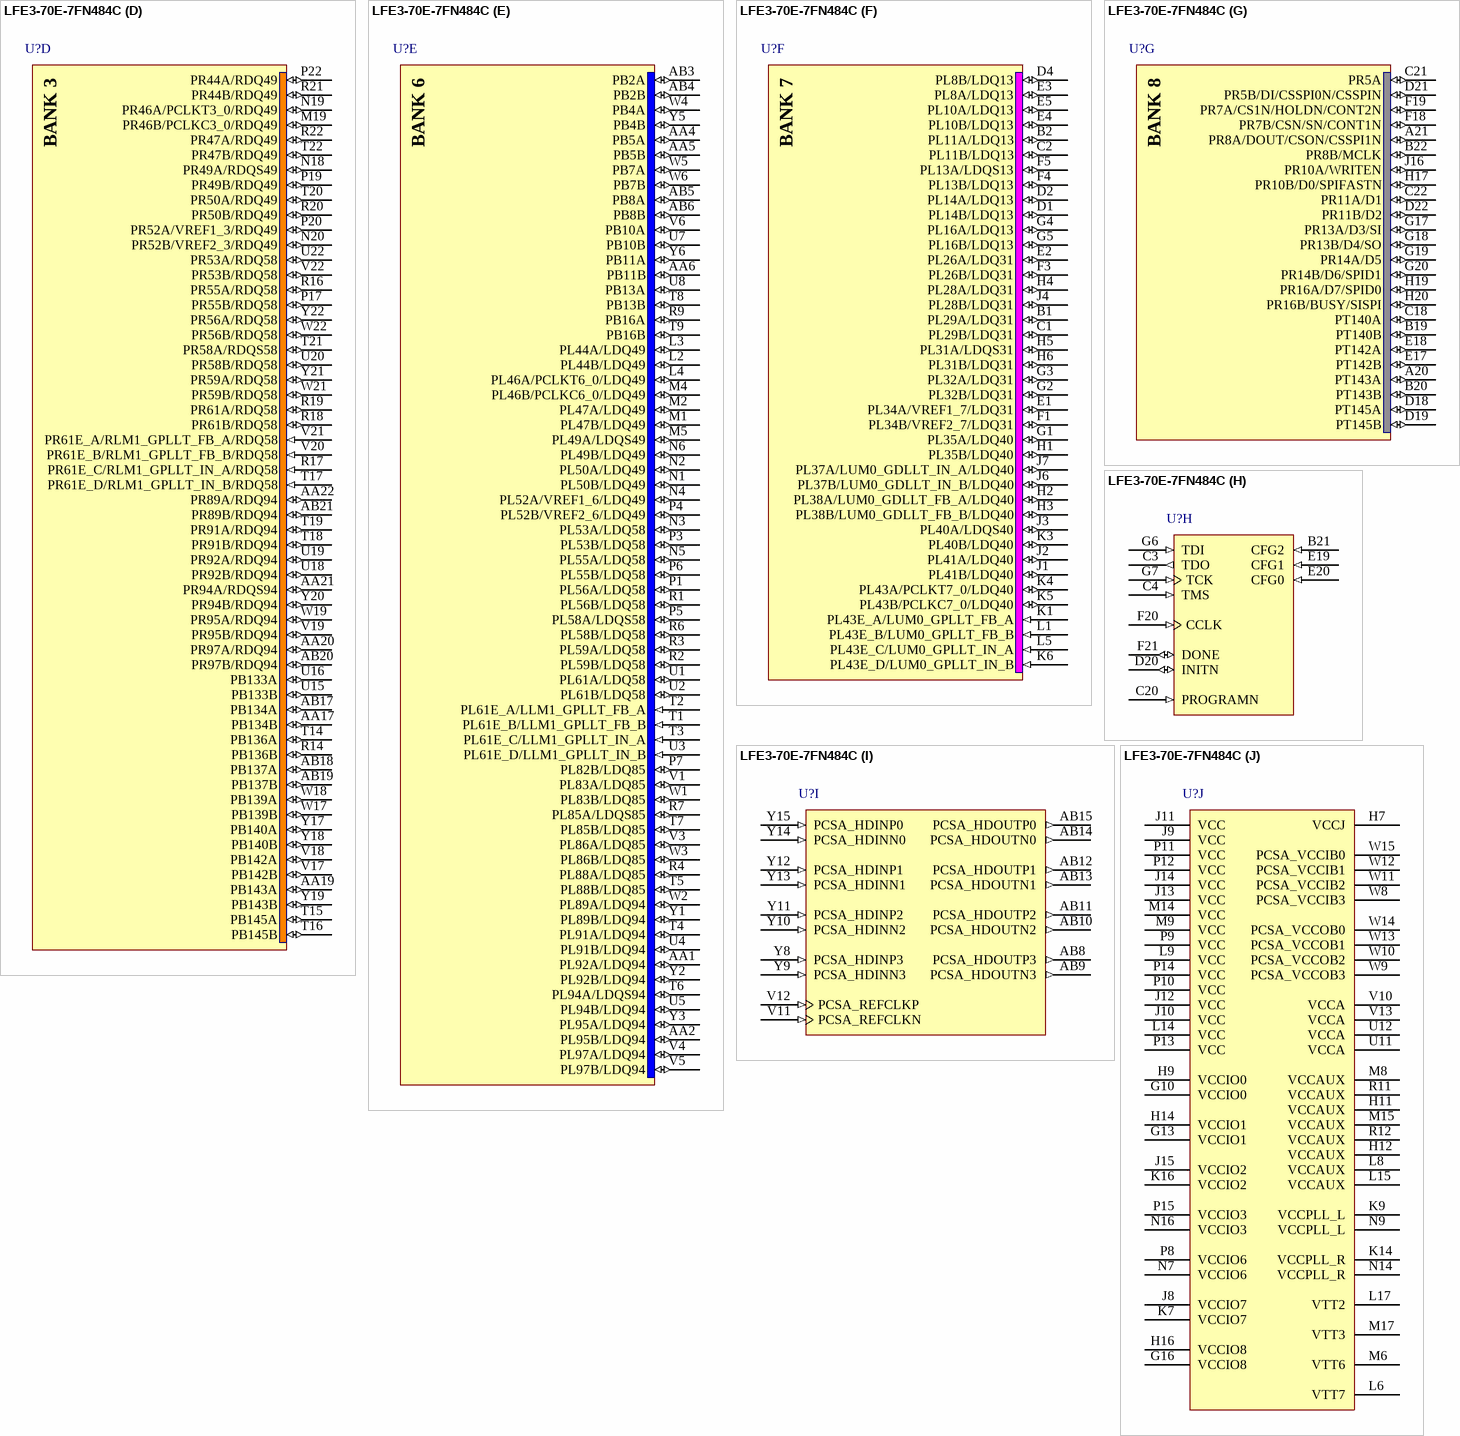
[diagram p55: symbol LFE3-70E-7FN484C]

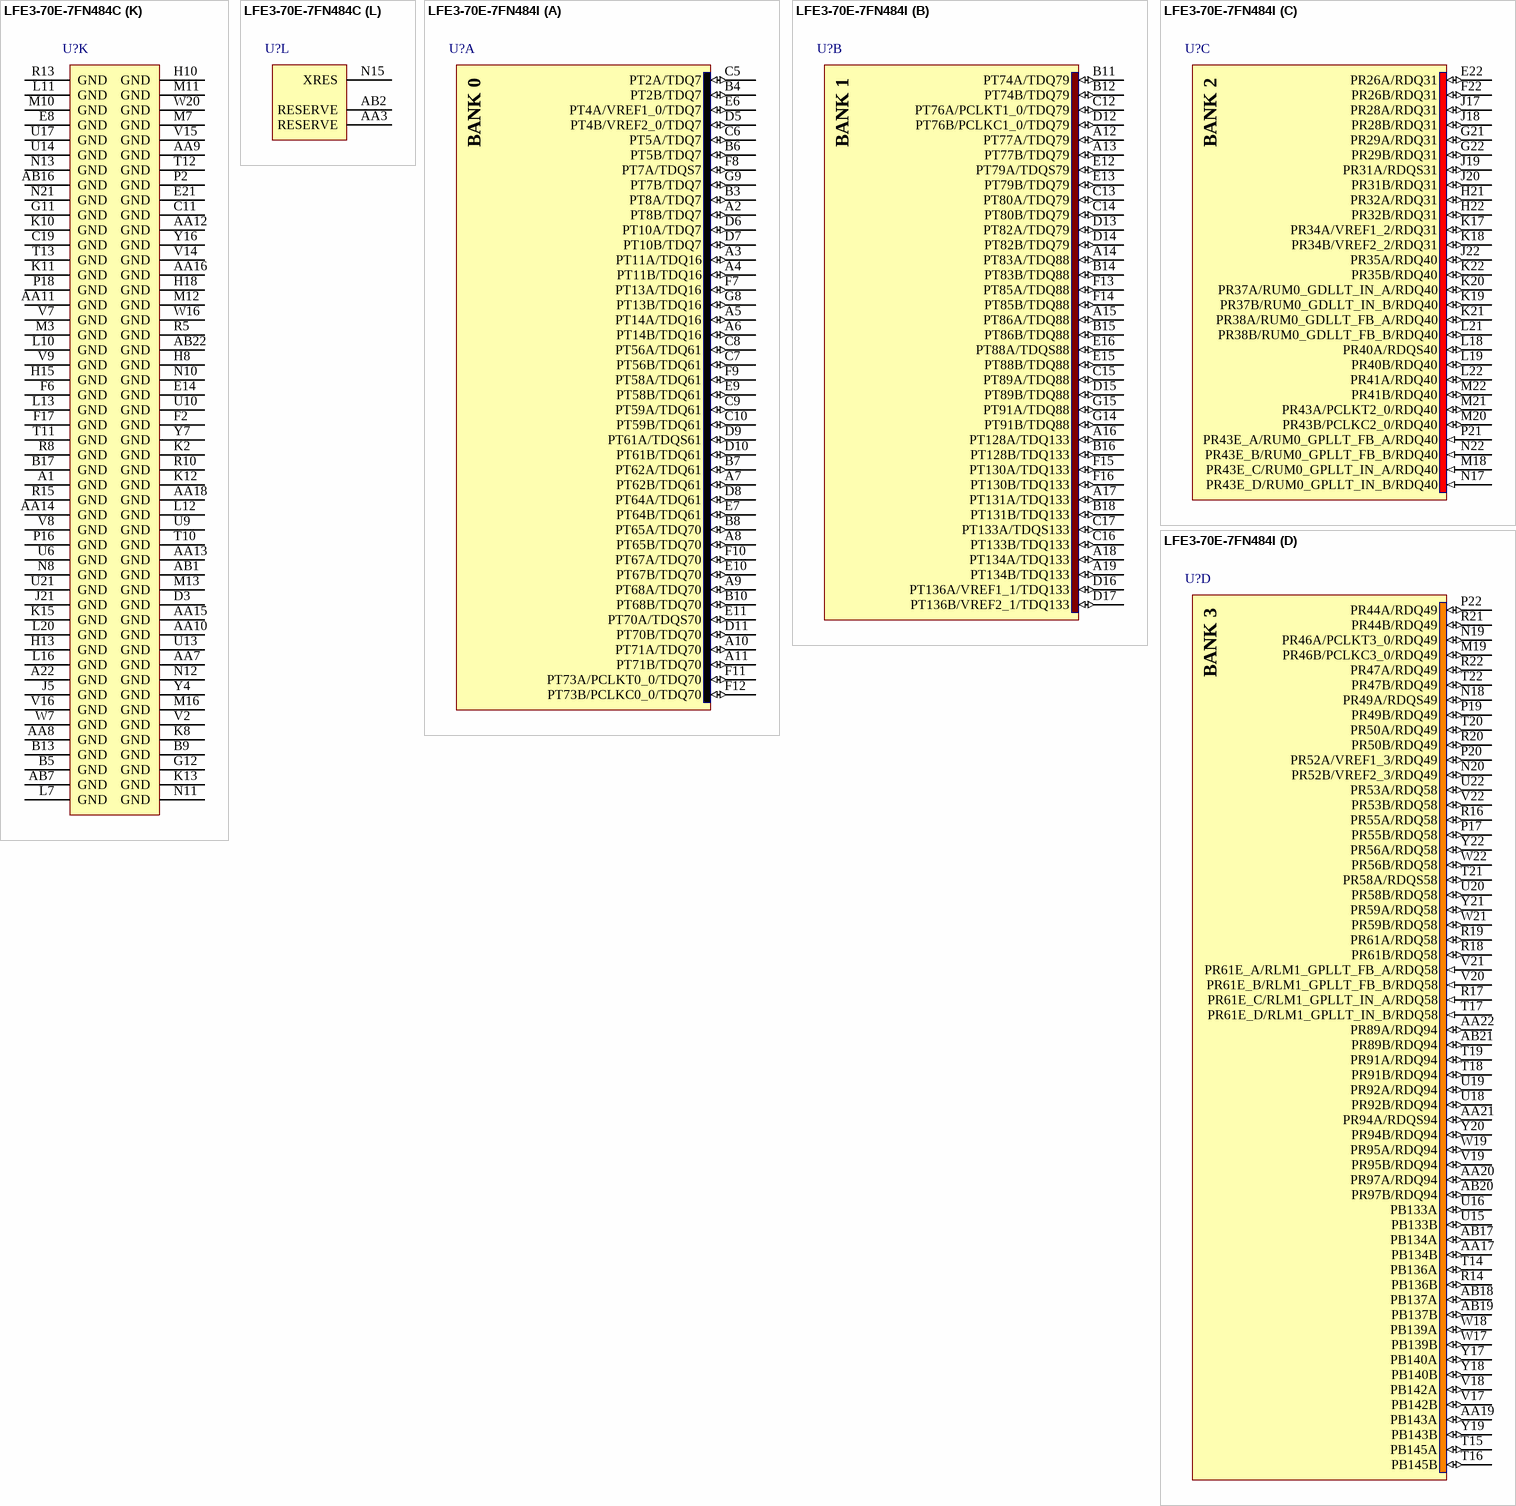
[diagram p56: symbols LFE3-70E-7FN484C to LFE3-70E-7FN484I]